# Altium schematic symbol library PI4.SCHLIB: 98 symbols (part 1 of 2)
Pins are listed as number, name and electrical type; pins without a type are passive.

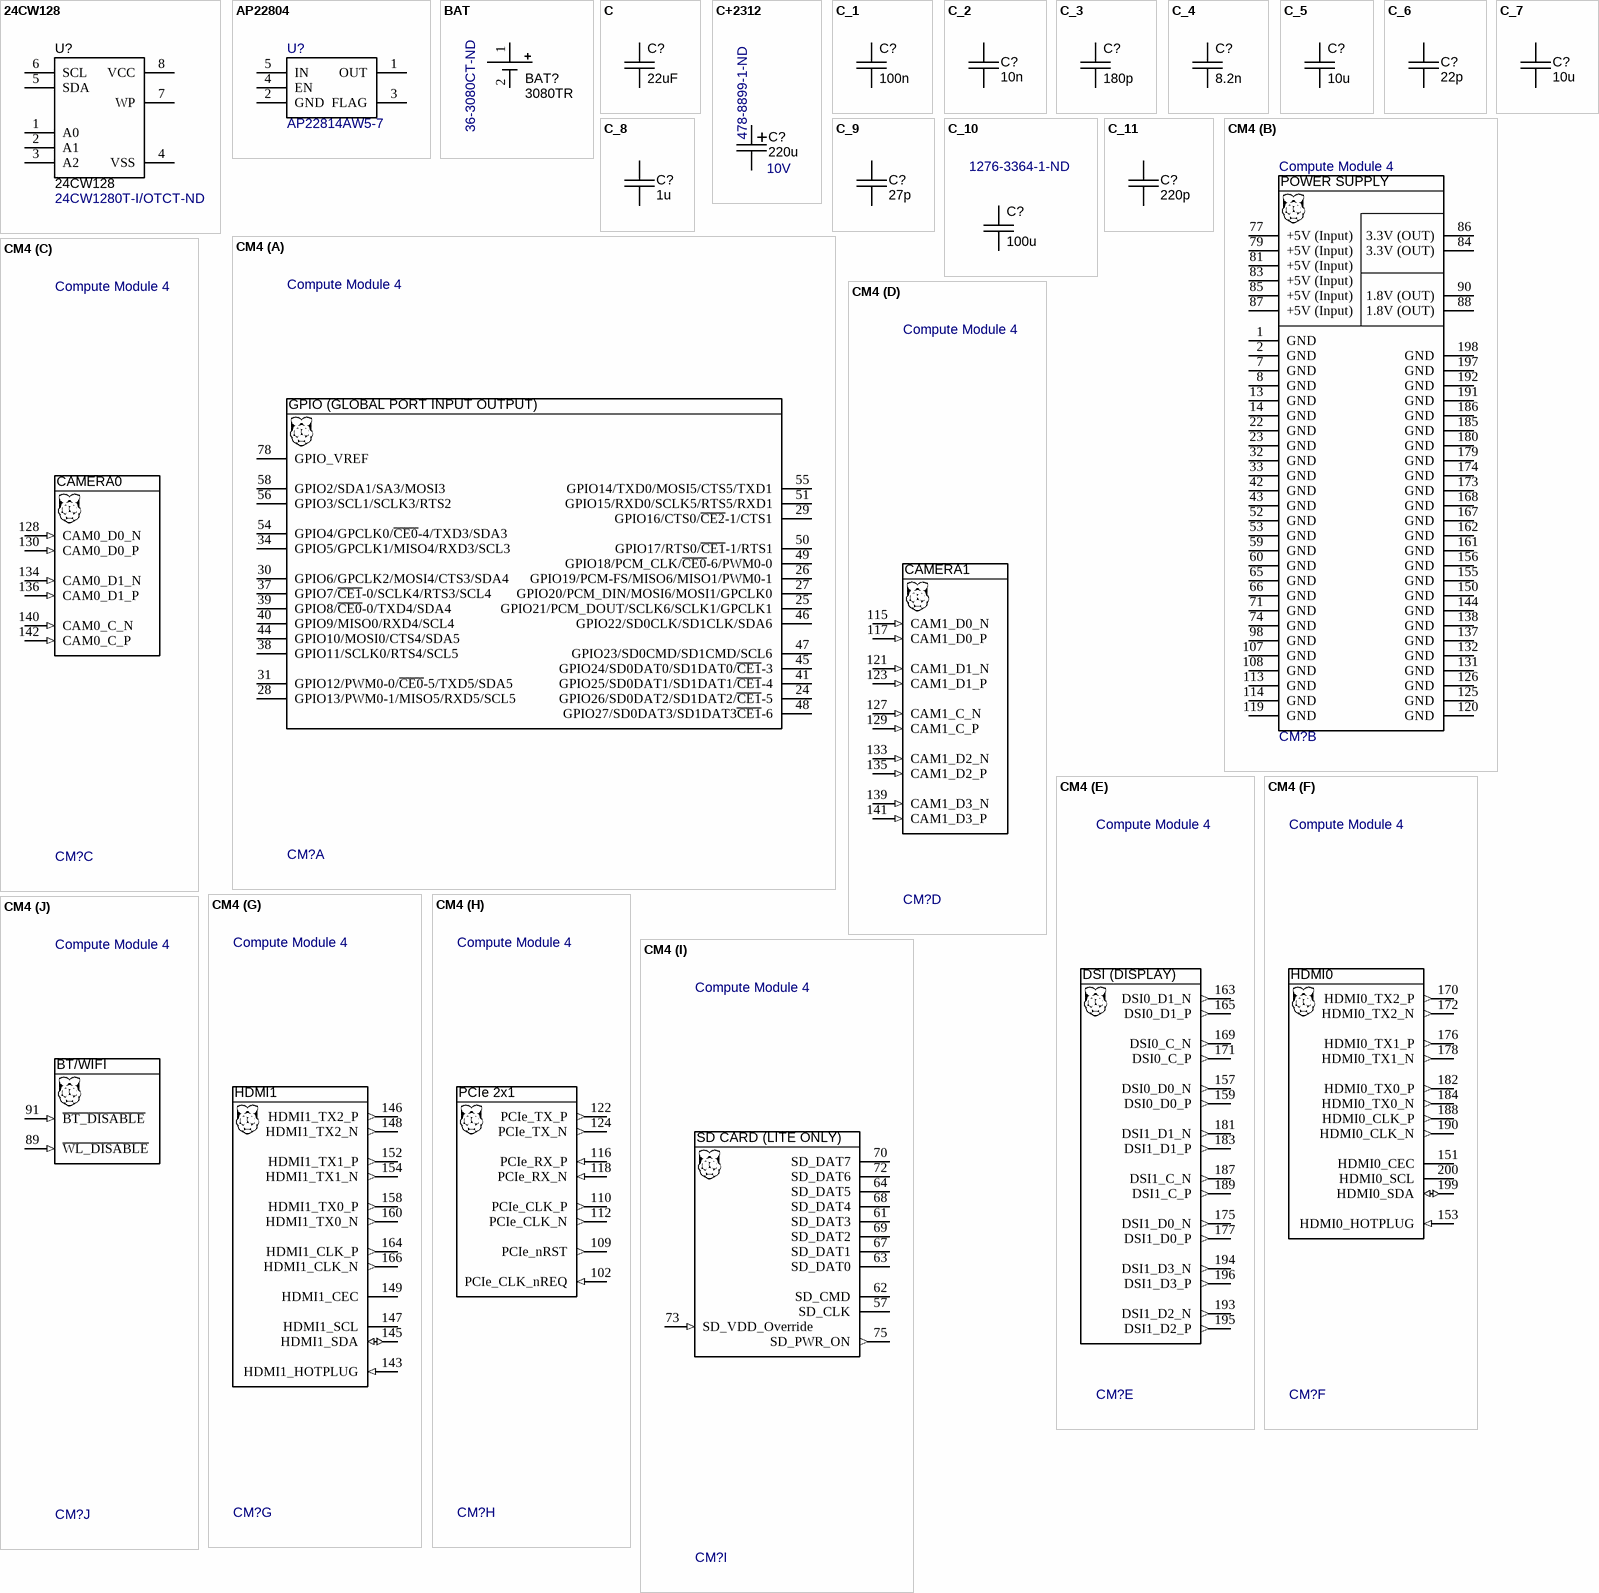
[diagram p0: symbols 24CW128 to CM4]

## 24CW128
designator U?  Supplier Part Number 1: 24CW1280T-I/OTCT-ND
Supplier 1: Digi-Key
footprint SOIC8 (8-Pin Small Outline Integrated Circuit 1.27 mm Pitch, IPC Low Density)
pins: 1 A0, 2 A1, 3 A2, 4 VSS, 5 SDA, 6 SCL, 7 WP, 8 VCC

## AP22804
designator U?, comment AP22814AW5-7
Supplier 1: Digi-Key; Supplier Part Number 1: AP22814AW5-7DICT-ND
footprint SOT23-5 (SOT23, 5-Leads, Body 3.0x2.6mm (max), Pitch 0.95mm, IPC Low Density)
pins: 1 OUT, 2 GND, 3 FLAG, 4 EN, 5 IN

## BAT
designator BAT?, comment 3080TR  Supplier Part Number 1: 36-3080CT-ND
Supplier 1: Digi-Key
footprint BAT_BK-916-TR
pins: 1 +, 2 -

## C
designator C?, comment 22uF
CL32B226KPJVPNE; Rule: UNIONINDEX=0|RULEKIND=PolygonConnect|NETSCOPE=Violation Description|LAYERKIND=SameLayer|NAME=Schematic Polygon Connect Style|CONNECTSTYLE=Direct|RELIEFCONDUCTORWIDTH=10mil|RELIEFENTRIES=4|POLYGONRELIEFANGLE=45 Angle|AIRGAPWIDTH=10mil|UNIT=Imperial; Supplier 1: Digi-Key; Supplier Part Number 1: 490-1719-1-ND
footprint SM/C1210 (Chip Resistor, Body 3.2x1.6mm, IPC Low Density)
pins: 1, 2

## C+2312
designator C?, comment 220u  Supplier Part Number 1: 478-8899-1-ND  Voltage: 10V
CAP TANT 220UF 20% 10V 2312; Supplier 1: Digi-Key
footprint CAPPM6032X280N
pins: 1 +, 2 -

## C_1
designator C?, comment 100n
Chip Capacitor; Voltage: 16V; Dielectric: X7R; Rule: UNIONINDEX=0|RULEKIND=PolygonConnect|NETSCOPE=Violation Description|LAYERKIND=SameLayer|NAME=Schematic Polygon Connect Style|CONNECTSTYLE=Direct|RELIEFCONDUCTORWIDTH=10mil|RELIEFENTRIES=4|POLYGONRELIEFANGLE=45 Angle|AIRGAPWIDTH=10mil|UNIT=Imperial; Supplier 1: Digi-Key; Supplier Part Number 1: 490-13243-1-ND; Supplier 2 Part Number: 1292-1393-1-ND; Supplier 2: Digi-Key
footprint SM/C0603 (Chip Capacitor, Body 1.6x0.8mm, IPC Low Density)
pins: 1, 2

## C_2
designator C?, comment 10n
Chip Capacitor; Voltage: 16V; Dielectric: X7R; Rule: UNIONINDEX=0|RULEKIND=PolygonConnect|NETSCOPE=Violation Description|LAYERKIND=SameLayer|NAME=Schematic Polygon Connect Style|CONNECTSTYLE=Direct|RELIEFCONDUCTORWIDTH=10mil|RELIEFENTRIES=4|POLYGONRELIEFANGLE=45 Angle|AIRGAPWIDTH=10mil|UNIT=Imperial; Supplier 1: Digi-Key; Supplier Part Number 1: 490-13243-1-ND; Supplier 2 Part Number: 1292-1393-1-ND; Supplier 2: Digi-Key
footprint SM/C0603 (Chip Capacitor, Body 1.6x0.8mm, IPC Low Density)
pins: 1, 2

## C_3
designator C?, comment 180p
Chip Capacitor; Voltage: 16V; Dielectric: X7R; Rule: UNIONINDEX=0|RULEKIND=PolygonConnect|NETSCOPE=Violation Description|LAYERKIND=SameLayer|NAME=Schematic Polygon Connect Style|CONNECTSTYLE=Direct|RELIEFCONDUCTORWIDTH=10mil|RELIEFENTRIES=4|POLYGONRELIEFANGLE=45 Angle|AIRGAPWIDTH=10mil|UNIT=Imperial; Supplier 1: Digi-Key; Supplier Part Number 1: 490-13243-1-ND; Supplier 2 Part Number: 1292-1393-1-ND; Supplier 2: Digi-Key
footprint SM/C0603 (Chip Capacitor, Body 1.6x0.8mm, IPC Low Density)
pins: 1, 2

## C_4
designator C?, comment 8.2n
Chip Capacitor; Voltage: 16V; Dielectric: X7R; Rule: UNIONINDEX=0|RULEKIND=PolygonConnect|NETSCOPE=Violation Description|LAYERKIND=SameLayer|NAME=Schematic Polygon Connect Style|CONNECTSTYLE=Direct|RELIEFCONDUCTORWIDTH=10mil|RELIEFENTRIES=4|POLYGONRELIEFANGLE=45 Angle|AIRGAPWIDTH=10mil|UNIT=Imperial; Supplier 1: Digi-Key; Supplier Part Number 1: 490-13243-1-ND; Supplier 2 Part Number: 1292-1393-1-ND; Supplier 2: Digi-Key
footprint SM/C0603 (Chip Capacitor, Body 1.6x0.8mm, IPC Low Density)
pins: 1, 2

## C_5
designator C?, comment 10u
CAP CER 10UF 10V X5R 0805; Supplier 1: Digi-Key; Supplier Part Number 1: 1276-2402-1-ND
footprint SM/C0805 (Chip Resistor, Body 2.0x1.3mm, IPC Low Density)
pins: 1, 2

## C_6
designator C?, comment 22p
Chip Capacitor
footprint SM/C0603 (Chip Capacitor, Body 1.6x0.8mm, IPC Low Density)
pins: 1, 2

## C_7
designator C?, comment 10u
Chip Capacitor
footprint SM/C0805 (Chip Resistor, Body 2.0x1.3mm, IPC Low Density)
pins: 1, 2

## C_8
designator C?, comment 1u
Chip Capacitor; Voltage: 16V; Dielectric: X7R; Supplier 2 Part Number: 1292-1393-1-ND; Supplier 2: Digi-Key
footprint SM/C0603 (Chip Capacitor, Body 1.6x0.8mm, IPC Low Density)
pins: 1, 2

## C_9
designator C?, comment 27p
Chip Capacitor
footprint SM/C0603 (Chip Capacitor, Body 1.6x0.8mm, IPC Low Density)
pins: 1, 2

## C_10
designator C?, comment 100u  Supplier Part Number 1: 1276-3364-1-ND
Chip Capacitor; Supplier 1: Digi-Key
footprint SM/C1210 (Chip Resistor, Body 3.2x1.6mm, IPC Low Density)
pins: 1, 2

## C_11
designator C?, comment 220p
Chip Capacitor; Voltage: 16V; Dielectric: X7R
footprint SM/C0603 (Chip Capacitor, Body 1.6x0.8mm, IPC Low Density)
pins: 1, 2

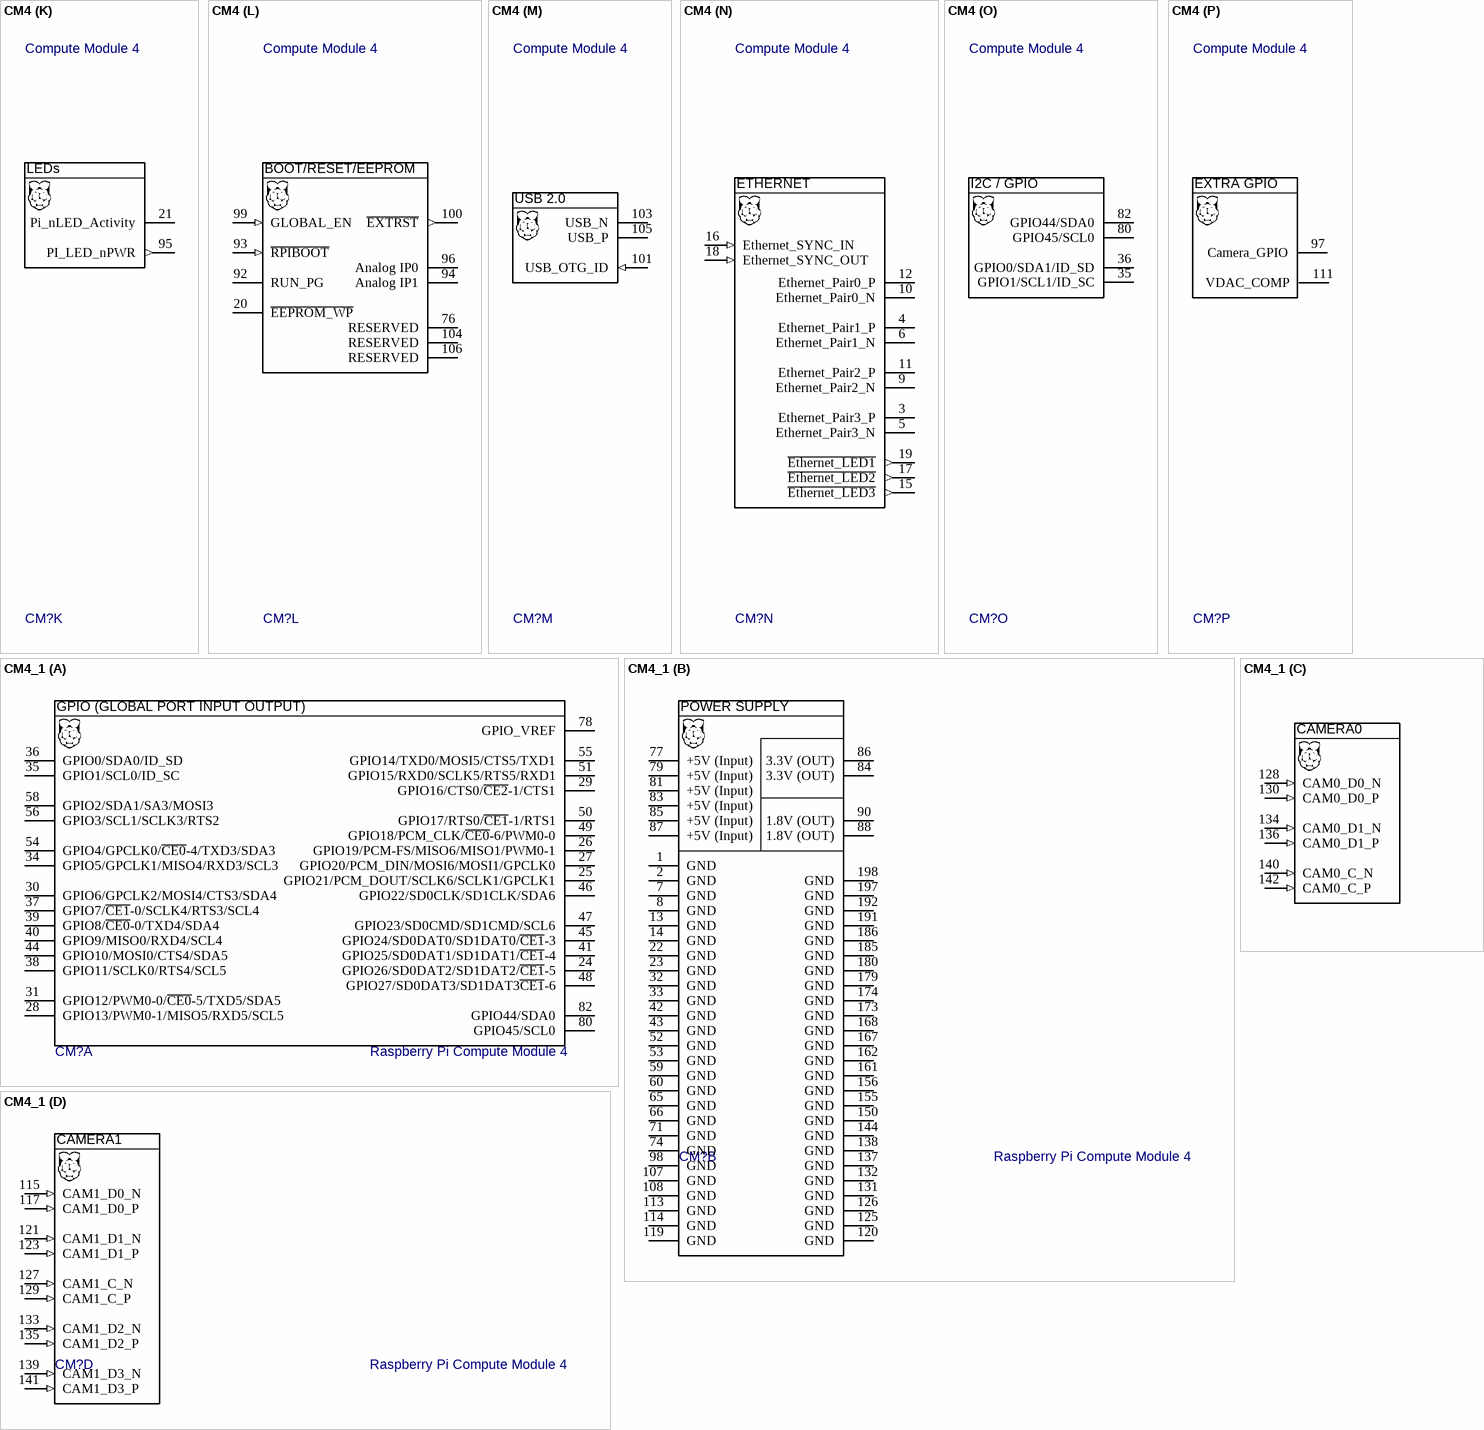
[diagram p1: symbols CM4 to CM4_1]

## CM4
designator CM?, comment Compute Module 4
Raspberry Pi Compute Module 4 by Amornthep Phunsin
footprint CM4-F40C-100DS-0.4v_1.5mm_0mm (DF40C-100DS-0.4v)
footprint CM4-DF40HC(3.0)-100DS-0.4v_3mm_1.5mm (DF40HC(3.0)-100DS-0.4v)
footprint CM4-RASPBERRY-PI4 (DF40C-100DS-0.4v by Amornthep Phunsin)
part A pins: 24 GPIO26/SD0DAT2/SD1DAT2/~{CE1}-5 "Pin37", 25 GPIO21/PCM_DOUT/SCLK6/SCLK1/GPCLK1 "Pin40", 26 GPIO19/PCM-FS/MISO6/MISO1/PWM0-1 "Pin35", 27 GPIO20/PCM_DIN/MOSI6/MOSI1/GPCLK0 "Pin38", 28 GPIO13/PWM0-1/MISO5/RXD5/SCL5 "Pin33 PWM1", 29 GPIO16/CTS0/~{CE2}-1/CTS1 "Pin36", 30 GPIO6/GPCLK2/MOSI4/CTS3/SDA4 "Pin31", 31 GPIO12/PWM0-0/~{CE0}-5/TXD5/SDA5 "Pin32 PWM0", 34 GPIO5/GPCLK1/MISO4/RXD3/SCL3 "Pin29", 37 GPIO7/~{CE1}-0/SCLK4/RTS3/SCL4 "Pin26 SPI0_CE1", 38 GPIO11/SCLK0/RTS4/SCL5 "Pin23 SPI0_CLK", 39 GPIO8/~{CE0}-0/TXD4/SDA4 "Pin24 SPI0_CE0", 40 GPIO9/MISO0/RXD4/SCL4 "Pin21 SPI0_MISO", 41 GPIO25/SD0DAT1/SD1DAT1/~{CE1}-4 "Pin22", 44 GPIO10/MOSI0/CTS4/SDA5 "Pin19 SPI0_MOSI", 45 GPIO24/SD0DAT0/SD1DAT0/~{CE1}-3 "Pin18", 46 GPIO22/SD0CLK/SD1CLK/SDA6 "Pin15", 47 GPIO23/SD0CMD/SD1CMD/SCL6 "Pin16", 48 GPIO27/SD0DAT3/SD1DAT3~{CE1}-6 "Pin13", 49 GPIO18/PCM_CLK/~{CE0}-6/PWM0-0 "Pin12", 50 GPIO17/RTS0/~{CE1}-1/RTS1 "Pin11", 51 GPIO15/RXD0/SCLK5/RTS5/RXD1 "Pin10 RXD0", 54 GPIO4/GPCLK0/~{CE0}-4/TXD3/SDA3 "Pin7 GPCLK0", 55 GPIO14/TXD0/MOSI5/CTS5/TXD1 "Pin8 TXD0", 56 GPIO3/SCL1/SCLK3/RTS2 "Pin5 SCL1 Internal 1.8K pull up", 58 GPIO2/SDA1/SA3/MOSI3 "Pin3 SDA1 Internal 1.8K pull up", 78 GPIO_VREF (power) "Must be connected to CM4_3.3V ( pins 84 and 86 ) for 3.3V GPIO or CM4_1.8V ( pins 88 and 90) for 1.8V GPIO. This pin cannot be floating or connected to ground"
part B pins: 1 GND (power) "Ground (0V)", 2 GND (power) "Ground (0V)", 7 GND (power) "Ground (0V)", 8 GND (power) "Ground (0V)", 13 GND (power) "Ground (0V)", 14 GND (power) "Ground (0V)", 22 GND (power) "Ground (0V)", 23 GND (power) "Ground (0V)", 32 GND (power) "Ground (0V)", 33 GND (power) "Ground (0V)", 42 GND (power) "Ground (0V)", 43 GND (power) "Ground (0V)", 52 GND (power) "Ground (0V)", 53 GND (power) "Ground (0V)", 59 GND (power) "Ground (0V)", 60 GND (power) "Ground (0V)", 65 GND (power) "Ground (0V)", 66 GND (power) "Ground (0V)", 71 GND (power) "Ground (0V)", 74 GND (power) "Ground (0V)", 77 +5V (Input) (power) "4.75V-5.25V Main power input", 79 +5V (Input) (power) "4.75V-5.25V Main power input", 81 +5V (Input) (power) "4.75V-5.25V Main power input", 83 +5V (Input) (power) "4.75V-5.25V Main power input", 84 3.3V (OUT) (power) "3.3V +/-2.5% Power Output max 300mA per pin for a total of 600mA. This will be powered down during power off or GLOBAL_EN being set low", 85 +5V (Input) (power) "4.75V-5.25V Main power input", 86 3.3V (OUT) (power) "3.3V +/-2.5% Power Output max 300mA per pin for a total of 600mA. This will be powered down during power off or GLOBAL_EN being set low", 87 +5V (Input) (power) "4.75V-5.25V Main power input", 88 1.8V (OUT) (power) "1.8V +/-2.5% Power Output max 300mA per pin for a total of 600mA. This will be powered down during power off or GLOBAL_EN being set low", 90 1.8V (OUT) (power) "1.8V +/-2.5% Power Output max 300mA per pin for a total of 600mA. This will be powered down during power off or GLOBAL_EN being set low", 98 GND (power) "Ground (0V)", 107 GND (power) "Ground (0V)", 108 GND (power) "Ground (0V)", 113 GND (power) "Ground (0V)", 114 GND (power) "Ground (0V)", 119 GND (power) "Ground (0V)", 120 GND (power) "Ground (0V)", 125 GND (power) "Ground (0V)", 126 GND (power) "Ground (0V)", 131 GND (power) "Ground (0V)", 132 GND (power) "Ground (0V)", 137 GND (power) "Ground (0V)", 138 GND (power) "Ground (0V)", 144 GND (power) "Ground (0V)", 150 GND (power) "Ground (0V)", 155 GND (power) "Ground (0V)", 156 GND (power) "Ground (0V)", 161 GND (power) "Ground (0V)", 162 GND (power) "Ground (0V)", 167 GND (power) "Ground (0V)", 168 GND (power) "Ground (0V)", 173 GND (power) "Ground (0V)", 174 GND (power) "Ground (0V)", 179 GND (power) "Ground (0V)", 180 GND (power) "Ground (0V)", 185 GND (power) "Ground (0V)", 186 GND (power) "Ground (0V)", 191 GND (power) "Ground (0V)", 192 GND (power) "Ground (0V)", 197 GND (power) "Ground (0V)", 198 GND (power) "Ground (0V)"
part C pins: 128 CAM0_D0_N (in) "Input Camera0 D0 Negative", 130 CAM0_D0_P (in) "Input Camera0 D0 Positive", 134 CAM0_D1_N (in) "Input Camera0 D1 Negative", 136 CAM0_D1_P (in) "Input Camera0 D1 Positive", 140 CAM0_C_N (in) "Input Camera0 Clock Negative", 142 CAM0_C_P (in) "Input Camera0 Clock Positive"
part D pins: 115 CAM1_D0_N (in) "Input Camera1 D0 Negative", 117 CAM1_D0_P (in) "Input Camera1 D0 Positive", 121 CAM1_D1_N (in) "Input Camera1 D1 Negative", 123 CAM1_D1_P (in) "Input Camera1 D1 Positive", 127 CAM1_C_N (in) "Input Camera1 Clock Negative", 129 CAM1_C_P (in) "Input Camera1 Clock Positive", 133 CAM1_D2_N (in) "Input Camera1 D2 Negative", 135 CAM1_D2_P (in) "Input Camera1 D2 Positive", 139 CAM1_D3_N (in) "Input Camera1 D3 Negative", 141 CAM1_D3_P (in) "Input Camera1 D3 Positive"
part E pins: 157 DSI0_D0_N (out) "Output Display0 D0 Negative", 159 DSI0_D0_P (out) "Output Display0 D0 Positive", 163 DSI0_D1_N (out) "Output Display0 D1 Negative", 165 DSI0_D1_P (out) "Output Display0 D1 Positive", 169 DSI0_C_N (out) "Output Display0 Clock Negative", 171 DSI0_C_P (out) "Output Display0 Clock Positive", 175 DSI1_D0_N (out) "Output Display1 D0 Negative", 177 DSI1_D0_P (out) "Output Display1 D0 Positive", 181 DSI1_D1_N (out) "Output Display1 D1 Negative", 183 DSI1_D1_P (out) "Output Display1 D1 Positive", 187 DSI1_C_N (out) "Output Display1 Clock Negative", 189 DSI1_C_P (out) "Output Display1 Clock Positive", 193 DSI1_D2_N (out) "Output Display1 D2 Negative", 194 DSI1_D3_N (out) "Output Display1 D3 Negative", 195 DSI1_D2_P (out) "Output Display1 D2 Positive", 196 DSI1_D3_P (out) "Output Display1 D3 Positive"
part F pins: 151 HDMI0_CEC (oc) "Input HDMI0 CEC Internally pulled up with a 27K. 5V tolerant (It can be connected directly to a HDMI connector a small amount of ESD protection is provided on the CM4 by an on board HDMI05-CL02F3)", 153 HDMI0_HOTPLUG (in) "Input HDMI0 Hotplug Internally pulled down 100K. 5V tolerant. (It can be connected directly to a HDMI connector a small amount of ESD protection is provided on the CM4 by an on board HDMI05-CL02F3)", 170 HDMI0_TX2_P (out) "Output HDMI0 TX2 Positive", 172 HDMI0_TX2_N (out) "Output HDMI0 TX2 Negative", 176 HDMI0_TX1_P (out) "Output HDMI0 TX1 Positive", 178 HDMI0_TX1_N (out) "Output HDMI0 TX1 Negative", 182 HDMI0_TX0_P (out) "Output HDMI0 TX0 Positive", 184 HDMI0_TX0_N (out) "Output HDMI0 TX0 Negative", 188 HDMI0_CLK_P (out) "Output HDMI0 Clock Positive", 190 HDMI0_CLK_N (out) "Output HDMI0 Clock Negative", 199 HDMI0_SDA (io) "Bidir HDMI0 SDA Internally pulled up with a 1.8K. 5V tolerant. (It can be connected directly to a HDMI connector a small amount of ESD protection is provided on the CM4 by an on board HDMI05-CL02F3)", 200 HDMI0_SCL (oc) "Bidir HDMI0 SCL Internally pulled up with a 1.8K. 5V tolerant. (It can be connected directly to a HDMI connector a small amount of ESD protection is provided on the CM4 by an on board HDMI05-CL02F3)"
part G pins: 143 HDMI1_HOTPLUG (in) "Input HDMI1 Hotplug Internally pulled down with a 100K. 5V tolerant. (It can be connected directly to a HDMI connector a small amount of ESD protection is provided on the CM4 by an on board HDMI05-CL02F3)", 145 HDMI1_SDA (io) "Bidir HDMI1 SDA Internally pulled up with a 1.8K. 5V tolerant. (It can be connected directly to a HDMI connector a small amount of ESD protection is provided on the CM4 by an on board HDMI05-CL02F3)", 146 HDMI1_TX2_P (out) "Output HDMI1 TX2 Positive", 147 HDMI1_SCL (oc) "Input HDMI1 SCL Internally pulled up with a 1.8K. 5V tolerant. (It can be connected directly to a HDMI connector a small amount of ESD protection is provided on the CM4 by an on board HDMI05-CL02F3)", 148 HDMI1_TX2_N (out) "Output HDMI1 TX2 Negative", 149 HDMI1_CEC (oc) "Input HDMI1 CEC Internally pulled up with a 27K. 5V tolerant. (It can be connected directly to a HDMI connector a small amount of ESD protection is provided on the CM4 by an on board HDMI05-CL02F3)", 152 HDMI1_TX1_P (out) "Output HDMI1 TX1 Positive", 154 HDMI1_TX1_N (out) "Output HDMI1 TX1 Negative", 158 HDMI1_TX0_P (out) "Output HDMI1 TX0 Positive", 160 HDMI1_TX0_N (out) "Output HDMI1 TX0 Negative", 164 HDMI1_CLK_P (out) "Output HDMI1 Clock Positive", 166 HDMI1_CLK_N (out) "Output HDMI1 Clock Negative"
part H pins: 102 PCIe_CLK_nREQ (in) "Input ( 3.3V signal) PCIe Clock request pin (low to request PCI clock). Internal pulled up", 109 PCIe_nRST (out) "Output (+3.3V signal) PCIe Reset Low active", 110 PCIe_CLK_P (out) "PCIe Clock Out Positive (100MHz) NB AC coupling Capacitor Included on CM4", 112 PCIe_CLK_N (out) "PCIe Clock Out Negative (100MHz) NB AC coupling Capacitor Included on CM4", 116 PCIe_RX_P (in) "Input PCIe GEN 2 RX Positive NB External AC coupling Capacitor required", 118 PCIe_RX_N (in) "Input PCIe GEN 2 RX Negative NB External AC coupling Capacitor required", 122 PCIe_TX_P (out) "Output PCIe GEN 2 TX Positive NB AC coupling Capacitor Included on CM4", 124 PCIe_TX_N (out) "Output PCIe GEN 2 TX Positive NB AC coupling Capacitor Included on CM4"
part I pins: 57 SD_CLK "SDCARD Clock signal (only available on CM4Lite)", 61 SD_DAT3 "SDCARD/eMMC Data3 signal (only available on CM4Lite)", 62 SD_CMD "SDCARD/eMMC Command signal (only available on CM4Lite)", 63 SD_DAT0 "SDCARD/eMMC Data0 signal (only available on CM4Lite)", 64 SD_DAT5 "SDCARD/eMMC Data5 signal (only available on CM4Lite)", 67 SD_DAT1 "SDCARD/eMMC Data1 signal (only available on CM4Lite)", 68 SD_DAT4 "SDCARD/eMMC Data4 signal (only available on CM4Lite)", 69 SD_DAT2 "SDCARD/eMMC Data2 signal (only available on CM4Lite)", 70 SD_DAT7 "SDCARD/eMMC Data7 signal (only available on CM4Lite)", 72 SD_DAT6 "SDCARD/eMMC Data6 signal (only available on CM4Lite)", 73 SD_VDD_Override (in) "Force SDCARD/eMMC interface to 1.8V signalling if set to 3.3V, otherwise leave unconnected. Typically only used if external eMMC is connected", 75 SD_PWR_ON (out) "Output to Power switch for SDCARD. CM4 sets this pin High (3.3V) to signal that Power to the SDCARD should be turned on. If booting from the SDCARD is required then a pullup should be fitted (only available on CM4Lite)"
part J pins: 89 ~{WL_DISABLE} (in) "Can be left floating if driven low the wireless interface will be disabled. Internal pulled up via 1.8K to CM4_3.3V", 91 ~{BT_DISABLE} (in) "Can be left floating if driven low the Bluetooth interface will be disabled. Internal pulled up via 1.8K to CM4_3.3V"
part K pins: 21 Pi_nLED_Activity (oc) "Low Active Pi Activity LED. 20mA Max 5V tolerant ( VOL<0.4V). ( this is the signal that drives the Green LED on the Raspberry Pi 4, Model B )", 95 PI_LED_nPWR (out) "Low active Output to drive Power On LED. This signal needs to be buffered."
part L pins: 20 ~{EEPROM_WP} "Leaving floating NB internally pulled up to CM4_3.3V via 100K ( VIL <0.8V) but can be grounded to prevent writing to the on board EEPROM which stores the bootcode", 76 RESERVED "Do not Connect anything to this pin.", 92 RUN_PG "Bidirectional pin. Can be driven low ( via a 220R resistor) to Reset the CM4 CPU. As an Output a high signals Power Good and CPU running. Internally pulled up to +3.3V via 10K", 93 ~{RPIBOOT} (in) "A low on this pin force booting from an RPI server ( e.g PC or a Raspberry Pi)  if not used leave floating. Internally pulled via 10K to +3.3V", 94 Analog IP1 "Analogue input of the MAX7704. Typically connected to CC pin of Type C power connector", 96 Analog IP0 "Analogue input of the MAX7704. Typically connected to CC pin of Type C power connector", 99 GLOBAL_EN (in) "Input. Drive low to power off CM4. Internally pulled up with a 100K to +5V", 100 ~{EXTRST} (out) "Output Driven low during reset Driven high (CM4_3.3V) once CM4 CPU has started to boot", 104 RESERVED "Do not Connect anything to this pin.", 106 RESERVED "Do not Connect anything to this pin."
part M pins: 101 USB_OTG_ID (in) "Input ( 3.3V signal ) USB OTG Pin. Internal pulled up. When grounded the CM4 becomes a USB host but the correct OS driver also needs to be used", 103 USB_N "USB D-", 105 USB_P "USB D+"
part N pins: 3 Ethernet_Pair3_P "Ethernet Pair 3 Positive ( connect to Transformer or MagJack)", 4 Ethernet_Pair1_P "Ethernet Pair 1 Positive ( connect to Transformer or MagJack)", 5 Ethernet_Pair3_N "Ethernet Pair 3 Negative ( connect to Transformer or MagJack)", 6 Ethernet_Pair1_N "Ethernet Pair 1 Negative ( connect to Transformer or MagJack)", 9 Ethernet_Pair2_N "Ethernet Pair 2 Negative ( connect to Transformer or MagJack)", 10 Ethernet_Pair0_N "Ethernet Pair 0 Negative ( connect to Transformer or MagJack)", 11 Ethernet_Pair2_P "Ethernet Pair 2 Positive ( connect to Transformer or MagJack)", 12 Ethernet_Pair0_P "Ethernet Pair 0 Positive ( connect to Transformer or MagJack)", 15 ~{Ethernet_LED3} (out) "Low Active Ethernet Activity indicator ( 3.3V signal) Typically a Green LED is connected to this pin: IOL = 8mA @ VOL< 0.4V", 16 Ethernet_SYNC_IN (in) "IEEE1588 SYNC Input pin ( 1.8V signal : IOL = 8mA @ VOL< 0.4V )", 17 ~{Ethernet_LED2} (out) "Low Active Ethernet speed indicator ( 3.3V signal) Typically a Yellow LED is connected to this pin. A low State indicates the 1Gbit or 100Mbit Link : IOL = 8mA @ VOL< 0.4V", 18 Ethernet_SYNC_OUT (in) "IEEE1588 SYNC Output pin ( 1.8V signal : IOL = 8mA @ VOL< 0.4V )", 19 ~{Ethernet_LED1} (out) "Low Active Ethernet speed indicator ( 3.3V signal) Typically a Yellow LED is connected to this pin. A low State indicates the 1Gbit or 10Mbit Link : IOL = 8mA @ VOL< 0.4V"
part O pins: 35 GPIO1/SCL1/ID_SC "Pin28 GPIO1 SCL0", 36 GPIO0/SDA1/ID_SD "Pin27 GPIO0 SDA0", 80 GPIO45/SCL0 "IIC Clock pin ( Raspberry Pi GPIO45) Typically used for Camera and Displays Internal 1.8K pull up to CM4_3.3V", 82 GPIO44/SDA0 "IIC Data pin ( Raspberry Pi GPIO44 ) Typically used for Camera and Displays Internal 1.8K pull up to CM4_3.3V"
part P pins: 97 Camera_GPIO "Typically used to Shutdown the camera to reduce power. Reassigning this pin to another function isn’t recommended. CM4_3.3V signalling", 111 VDAC_COMP "Video DAC output (TV OUT)"
part A text: GPIO (GLOBAL PORT INPUT OUTPUT)
part B text: POWER SUPPLY
part C text: CAMERA0
part D text: CAMERA1
part E text: DSI (DISPLAY)
part F text: HDMI0
part G text: HDMI1
part H text: PCIe 2x1
part I text: SD CARD (LITE ONLY)
part J text: BT/WIFI
part K text: LEDs
part L text: BOOT/RESET/EEPROM
part M text: USB 2.0
part N text: ETHERNET
part O text: I2C / GPIO
part P text: EXTRA GPIO

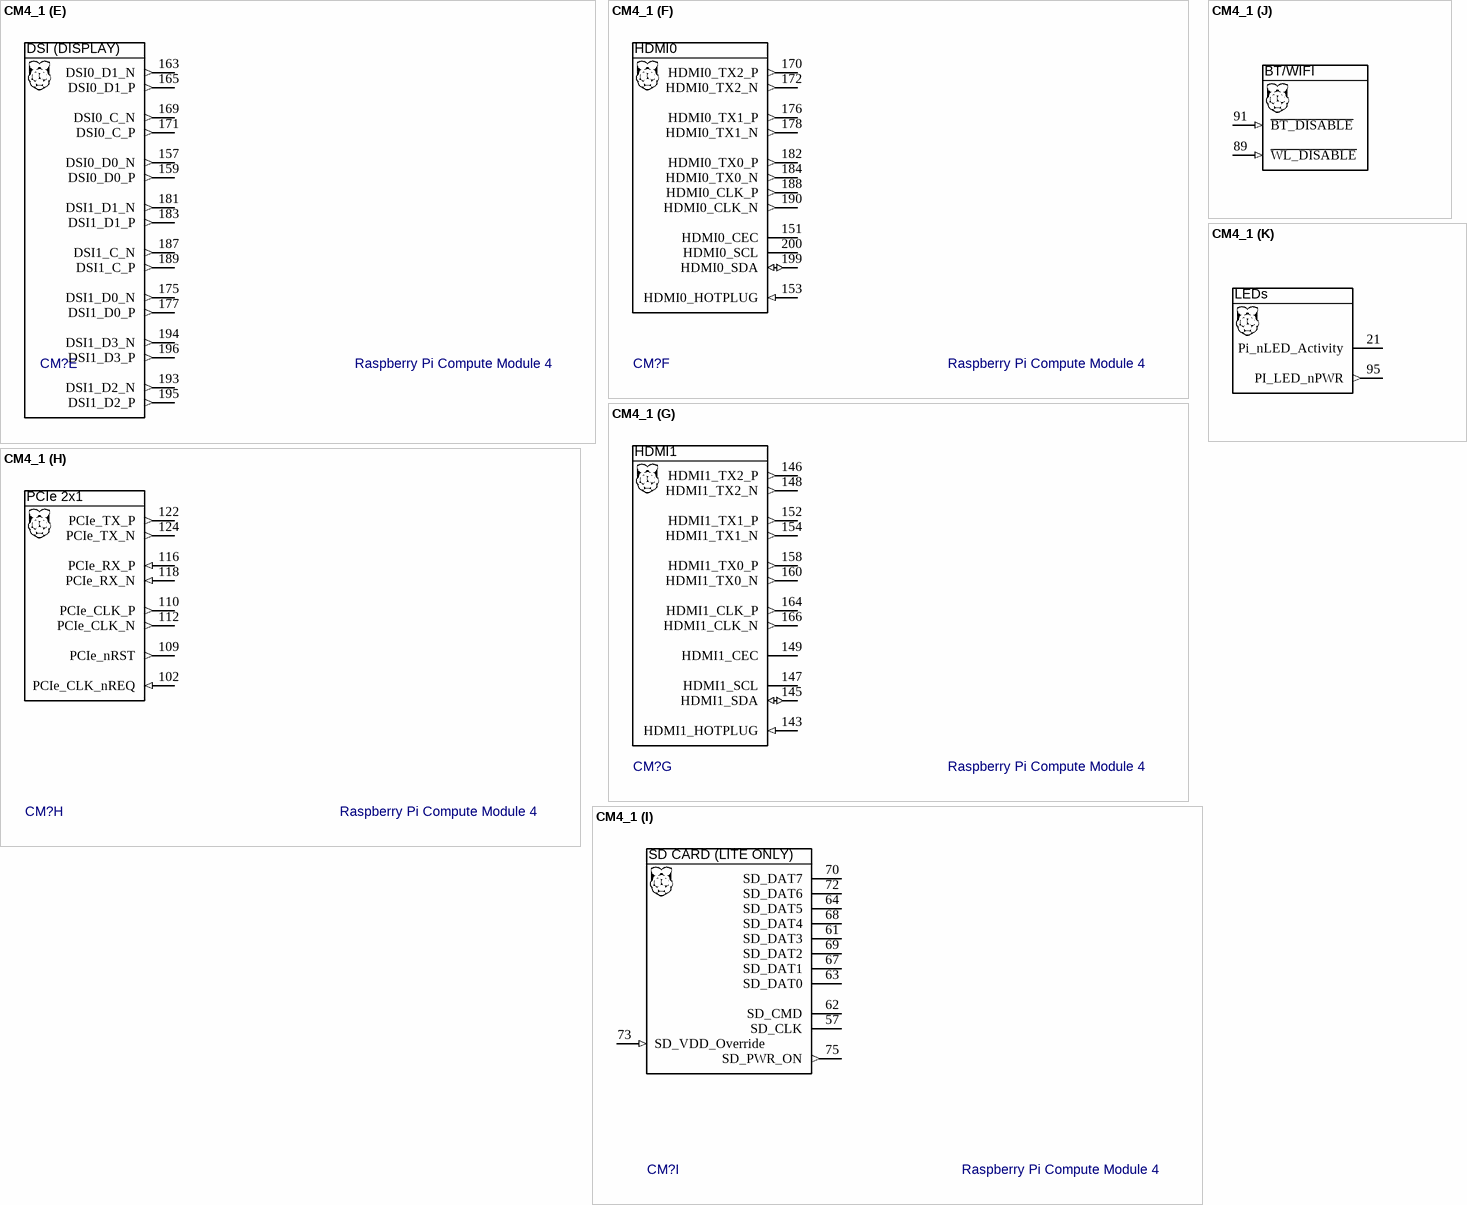
[diagram p2: symbol CM4_1]

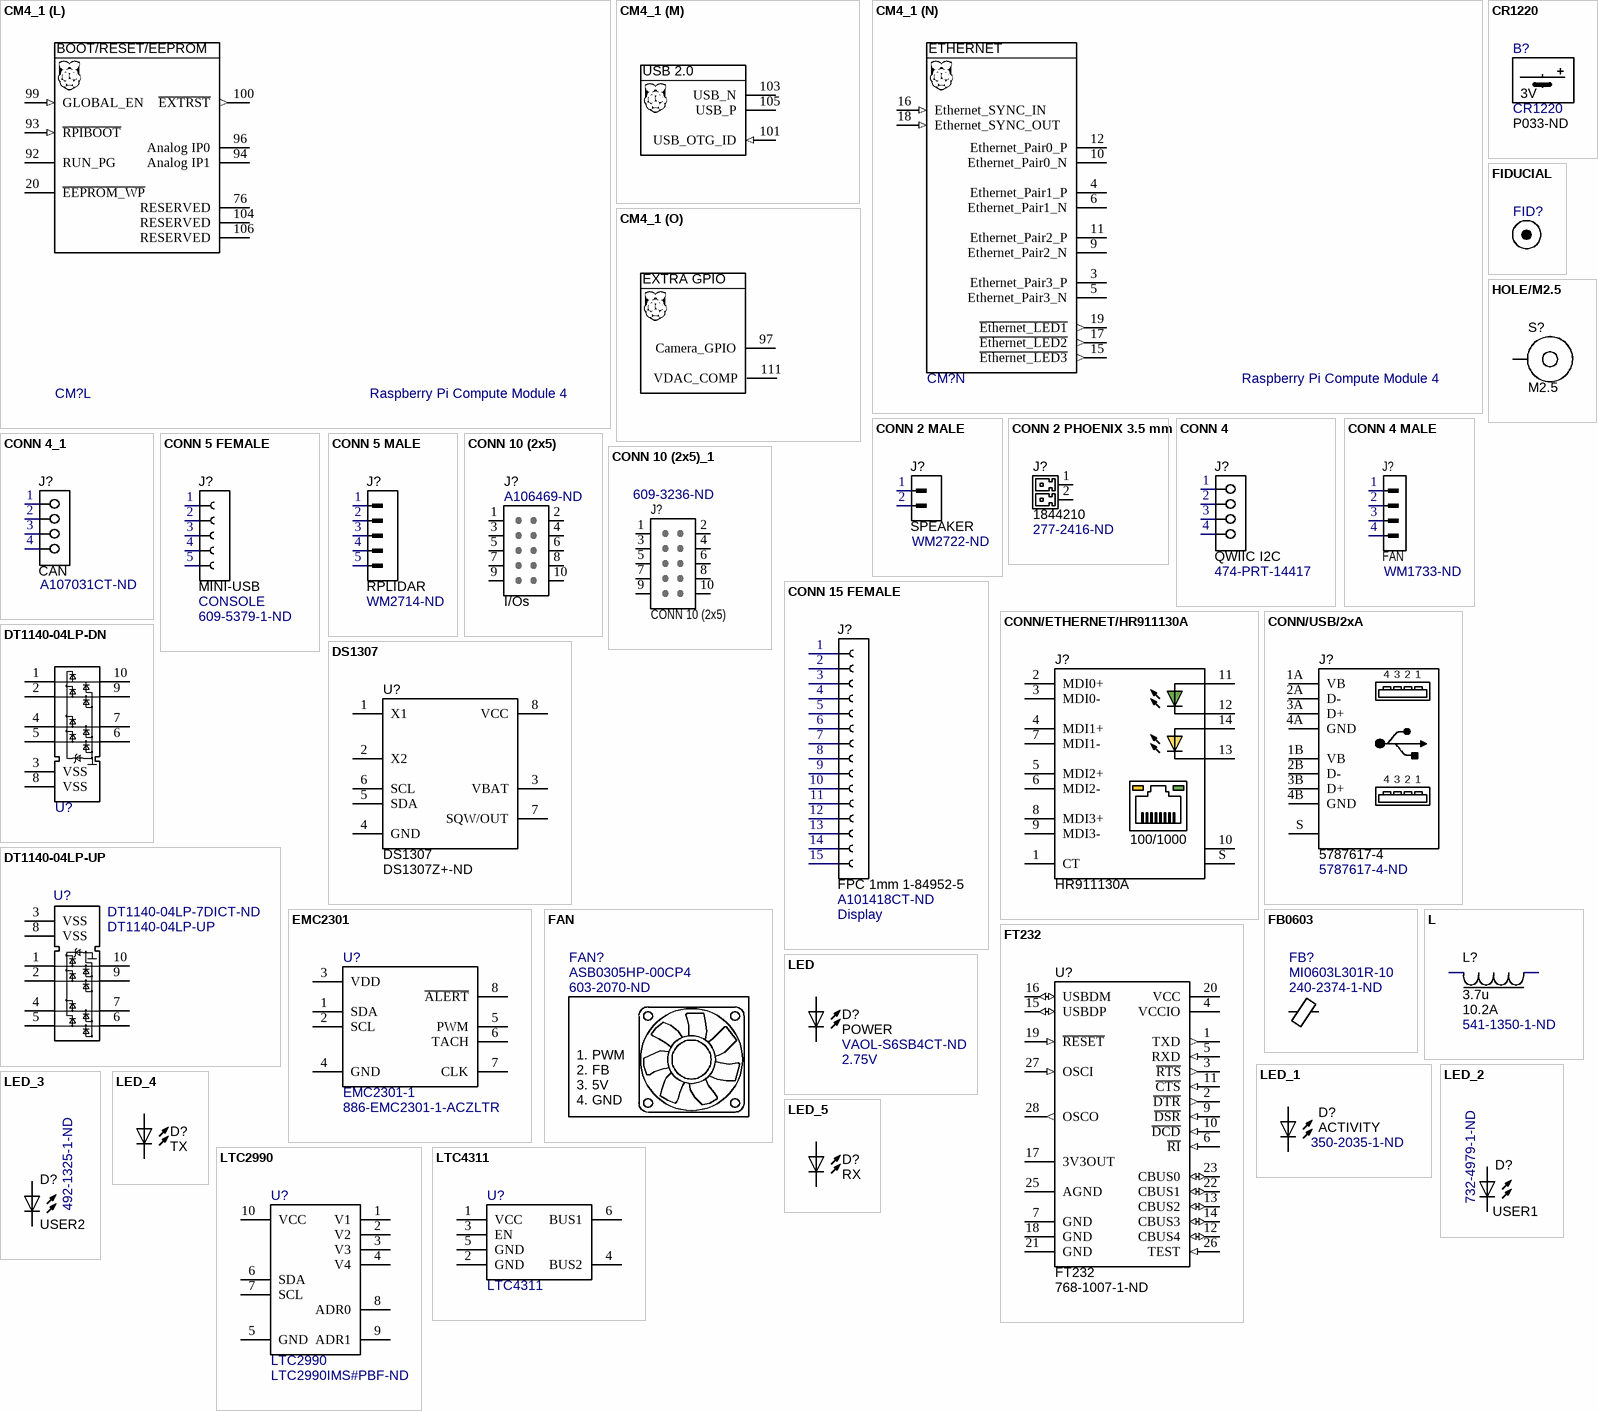
[diagram p3: symbols CM4_1 to LTC4311]

## CM4_1
designator CM?, comment Raspberry Pi Compute Module 4
Raspberry Pi Compute Module 4 by Amornthep Phunsin
footprint CM4-F40C-100DS-0.4v_1.5mm_0mm (DF40C-100DS-0.4v)
footprint CM4-DF40HC(3.0)-100DS-0.4v_3mm_1.5mm (DF40HC(3.0)-100DS-0.4v)
footprint CM4-RASPBERRY-PI4 (DF40C-100DS-0.4v by Amornthep Phunsin)
part A pins: 24 GPIO26/SD0DAT2/SD1DAT2/~{CE1}-5 "Pin37", 25 GPIO21/PCM_DOUT/SCLK6/SCLK1/GPCLK1 "Pin40", 26 GPIO19/PCM-FS/MISO6/MISO1/PWM0-1 "Pin35", 27 GPIO20/PCM_DIN/MOSI6/MOSI1/GPCLK0 "Pin38", 28 GPIO13/PWM0-1/MISO5/RXD5/SCL5 "Pin33 PWM1", 29 GPIO16/CTS0/~{CE2}-1/CTS1 "Pin36", 30 GPIO6/GPCLK2/MOSI4/CTS3/SDA4 "Pin31", 31 GPIO12/PWM0-0/~{CE0}-5/TXD5/SDA5 "Pin32 PWM0", 34 GPIO5/GPCLK1/MISO4/RXD3/SCL3 "Pin29", 35 GPIO1/SCL0/ID_SC "Pin28 GPIO1 SCL0", 36 GPIO0/SDA0/ID_SD "Pin27 GPIO0 SDA0", 37 GPIO7/~{CE1}-0/SCLK4/RTS3/SCL4 "Pin26 SPI0_CE1", 38 GPIO11/SCLK0/RTS4/SCL5 "Pin23 SPI0_CLK", 39 GPIO8/~{CE0}-0/TXD4/SDA4 "Pin24 SPI0_CE0", 40 GPIO9/MISO0/RXD4/SCL4 "Pin21 SPI0_MISO", 41 GPIO25/SD0DAT1/SD1DAT1/~{CE1}-4 "Pin22", 44 GPIO10/MOSI0/CTS4/SDA5 "Pin19 SPI0_MOSI", 45 GPIO24/SD0DAT0/SD1DAT0/~{CE1}-3 "Pin18", 46 GPIO22/SD0CLK/SD1CLK/SDA6 "Pin15", 47 GPIO23/SD0CMD/SD1CMD/SCL6 "Pin16", 48 GPIO27/SD0DAT3/SD1DAT3~{CE1}-6 "Pin13", 49 GPIO18/PCM_CLK/~{CE0}-6/PWM0-0 "Pin12", 50 GPIO17/RTS0/~{CE1}-1/RTS1 "Pin11", 51 GPIO15/RXD0/SCLK5/RTS5/RXD1 "Pin10 RXD0", 54 GPIO4/GPCLK0/~{CE0}-4/TXD3/SDA3 "Pin7 GPCLK0", 55 GPIO14/TXD0/MOSI5/CTS5/TXD1 "Pin8 TXD0", 56 GPIO3/SCL1/SCLK3/RTS2 "Pin5 SCL1 Internal 1.8K pull up", 58 GPIO2/SDA1/SA3/MOSI3 "Pin3 SDA1 Internal 1.8K pull up", 78 GPIO_VREF (power) "Must be connected to CM4_3.3V ( pins 84 and 86 ) for 3.3V GPIO or CM4_1.8V ( pins 88 and 90) for 1.8V GPIO. This pin cannot be floating or connected to ground", 80 GPIO45/SCL0 "IIC Clock pin ( Raspberry Pi GPIO45) Typically used for Camera and Displays Internal 1.8K pull up to CM4_3.3V", 82 GPIO44/SDA0 "IIC Data pin ( Raspberry Pi GPIO44 ) Typically used for Camera and Displays Internal 1.8K pull up to CM4_3.3V"
part B pins: 1 GND (power) "Ground (0V)", 2 GND (power) "Ground (0V)", 7 GND (power) "Ground (0V)", 8 GND (power) "Ground (0V)", 13 GND (power) "Ground (0V)", 14 GND (power) "Ground (0V)", 22 GND (power) "Ground (0V)", 23 GND (power) "Ground (0V)", 32 GND (power) "Ground (0V)", 33 GND (power) "Ground (0V)", 42 GND (power) "Ground (0V)", 43 GND (power) "Ground (0V)", 52 GND (power) "Ground (0V)", 53 GND (power) "Ground (0V)", 59 GND (power) "Ground (0V)", 60 GND (power) "Ground (0V)", 65 GND (power) "Ground (0V)", 66 GND (power) "Ground (0V)", 71 GND (power) "Ground (0V)", 74 GND (power) "Ground (0V)", 77 +5V (Input) (power) "4.75V-5.25V Main power input", 79 +5V (Input) (power) "4.75V-5.25V Main power input", 81 +5V (Input) (power) "4.75V-5.25V Main power input", 83 +5V (Input) (power) "4.75V-5.25V Main power input", 84 3.3V (OUT) (power) "3.3V +/-2.5% Power Output max 300mA per pin for a total of 600mA. This will be powered down during power off or GLOBAL_EN being set low", 85 +5V (Input) (power) "4.75V-5.25V Main power input", 86 3.3V (OUT) (power) "3.3V +/-2.5% Power Output max 300mA per pin for a total of 600mA. This will be powered down during power off or GLOBAL_EN being set low", 87 +5V (Input) (power) "4.75V-5.25V Main power input", 88 1.8V (OUT) (power) "1.8V +/-2.5% Power Output max 300mA per pin for a total of 600mA. This will be powered down during power off or GLOBAL_EN being set low", 90 1.8V (OUT) (power) "1.8V +/-2.5% Power Output max 300mA per pin for a total of 600mA. This will be powered down during power off or GLOBAL_EN being set low", 98 GND (power) "Ground (0V)", 107 GND (power) "Ground (0V)", 108 GND (power) "Ground (0V)", 113 GND (power) "Ground (0V)", 114 GND (power) "Ground (0V)", 119 GND (power) "Ground (0V)", 120 GND (power) "Ground (0V)", 125 GND (power) "Ground (0V)", 126 GND (power) "Ground (0V)", 131 GND (power) "Ground (0V)", 132 GND (power) "Ground (0V)", 137 GND (power) "Ground (0V)", 138 GND (power) "Ground (0V)", 144 GND (power) "Ground (0V)", 150 GND (power) "Ground (0V)", 155 GND (power) "Ground (0V)", 156 GND (power) "Ground (0V)", 161 GND (power) "Ground (0V)", 162 GND (power) "Ground (0V)", 167 GND (power) "Ground (0V)", 168 GND (power) "Ground (0V)", 173 GND (power) "Ground (0V)", 174 GND (power) "Ground (0V)", 179 GND (power) "Ground (0V)", 180 GND (power) "Ground (0V)", 185 GND (power) "Ground (0V)", 186 GND (power) "Ground (0V)", 191 GND (power) "Ground (0V)", 192 GND (power) "Ground (0V)", 197 GND (power) "Ground (0V)", 198 GND (power) "Ground (0V)"
part C pins: 128 CAM0_D0_N (in) "Input Camera0 D0 Negative", 130 CAM0_D0_P (in) "Input Camera0 D0 Positive", 134 CAM0_D1_N (in) "Input Camera0 D1 Negative", 136 CAM0_D1_P (in) "Input Camera0 D1 Positive", 140 CAM0_C_N (in) "Input Camera0 Clock Negative", 142 CAM0_C_P (in) "Input Camera0 Clock Positive"
part D pins: 115 CAM1_D0_N (in) "Input Camera1 D0 Negative", 117 CAM1_D0_P (in) "Input Camera1 D0 Positive", 121 CAM1_D1_N (in) "Input Camera1 D1 Negative", 123 CAM1_D1_P (in) "Input Camera1 D1 Positive", 127 CAM1_C_N (in) "Input Camera1 Clock Negative", 129 CAM1_C_P (in) "Input Camera1 Clock Positive", 133 CAM1_D2_N (in) "Input Camera1 D2 Negative", 135 CAM1_D2_P (in) "Input Camera1 D2 Positive", 139 CAM1_D3_N (in) "Input Camera1 D3 Negative", 141 CAM1_D3_P (in) "Input Camera1 D3 Positive"
part E pins: 157 DSI0_D0_N (out) "Output Display0 D0 Negative", 159 DSI0_D0_P (out) "Output Display0 D0 Positive", 163 DSI0_D1_N (out) "Output Display0 D1 Negative", 165 DSI0_D1_P (out) "Output Display0 D1 Positive", 169 DSI0_C_N (out) "Output Display0 Clock Negative", 171 DSI0_C_P (out) "Output Display0 Clock Positive", 175 DSI1_D0_N (out) "Output Display1 D0 Negative", 177 DSI1_D0_P (out) "Output Display1 D0 Positive", 181 DSI1_D1_N (out) "Output Display1 D1 Negative", 183 DSI1_D1_P (out) "Output Display1 D1 Positive", 187 DSI1_C_N (out) "Output Display1 Clock Negative", 189 DSI1_C_P (out) "Output Display1 Clock Positive", 193 DSI1_D2_N (out) "Output Display1 D2 Negative", 194 DSI1_D3_N (out) "Output Display1 D3 Negative", 195 DSI1_D2_P (out) "Output Display1 D2 Positive", 196 DSI1_D3_P (out) "Output Display1 D3 Positive"
part F pins: 151 HDMI0_CEC (oc) "Input HDMI0 CEC Internally pulled up with a 27K. 5V tolerant (It can be connected directly to a HDMI connector a small amount of ESD protection is provided on the CM4 by an on board HDMI05-CL02F3)", 153 HDMI0_HOTPLUG (in) "Input HDMI0 Hotplug Internally pulled down 100K. 5V tolerant. (It can be connected directly to a HDMI connector a small amount of ESD protection is provided on the CM4 by an on board HDMI05-CL02F3)", 170 HDMI0_TX2_P (out) "Output HDMI0 TX2 Positive", 172 HDMI0_TX2_N (out) "Output HDMI0 TX2 Negative", 176 HDMI0_TX1_P (out) "Output HDMI0 TX1 Positive", 178 HDMI0_TX1_N (out) "Output HDMI0 TX1 Negative", 182 HDMI0_TX0_P (out) "Output HDMI0 TX0 Positive", 184 HDMI0_TX0_N (out) "Output HDMI0 TX0 Negative", 188 HDMI0_CLK_P (out) "Output HDMI0 Clock Positive", 190 HDMI0_CLK_N (out) "Output HDMI0 Clock Negative", 199 HDMI0_SDA (io) "Bidir HDMI0 SDA Internally pulled up with a 1.8K. 5V tolerant. (It can be connected directly to a HDMI connector a small amount of ESD protection is provided on the CM4 by an on board HDMI05-CL02F3)", 200 HDMI0_SCL (oc) "Bidir HDMI0 SCL Internally pulled up with a 1.8K. 5V tolerant. (It can be connected directly to a HDMI connector a small amount of ESD protection is provided on the CM4 by an on board HDMI05-CL02F3)"
part G pins: 143 HDMI1_HOTPLUG (in) "Input HDMI1 Hotplug Internally pulled down with a 100K. 5V tolerant. (It can be connected directly to a HDMI connector a small amount of ESD protection is provided on the CM4 by an on board HDMI05-CL02F3)", 145 HDMI1_SDA (io) "Bidir HDMI1 SDA Internally pulled up with a 1.8K. 5V tolerant. (It can be connected directly to a HDMI connector a small amount of ESD protection is provided on the CM4 by an on board HDMI05-CL02F3)", 146 HDMI1_TX2_P (out) "Output HDMI1 TX2 Positive", 147 HDMI1_SCL (oc) "Input HDMI1 SCL Internally pulled up with a 1.8K. 5V tolerant. (It can be connected directly to a HDMI connector a small amount of ESD protection is provided on the CM4 by an on board HDMI05-CL02F3)", 148 HDMI1_TX2_N (out) "Output HDMI1 TX2 Negative", 149 HDMI1_CEC (oc) "Input HDMI1 CEC Internally pulled up with a 27K. 5V tolerant. (It can be connected directly to a HDMI connector a small amount of ESD protection is provided on the CM4 by an on board HDMI05-CL02F3)", 152 HDMI1_TX1_P (out) "Output HDMI1 TX1 Positive", 154 HDMI1_TX1_N (out) "Output HDMI1 TX1 Negative", 158 HDMI1_TX0_P (out) "Output HDMI1 TX0 Positive", 160 HDMI1_TX0_N (out) "Output HDMI1 TX0 Negative", 164 HDMI1_CLK_P (out) "Output HDMI1 Clock Positive", 166 HDMI1_CLK_N (out) "Output HDMI1 Clock Negative"
part H pins: 102 PCIe_CLK_nREQ (in) "Input ( 3.3V signal) PCIe Clock request pin (low to request PCI clock). Internal pulled up", 109 PCIe_nRST (out) "Output (+3.3V signal) PCIe Reset Low active", 110 PCIe_CLK_P (out) "PCIe Clock Out Positive (100MHz) NB AC coupling Capacitor Included on CM4", 112 PCIe_CLK_N (out) "PCIe Clock Out Negative (100MHz) NB AC coupling Capacitor Included on CM4", 116 PCIe_RX_P (in) "Input PCIe GEN 2 RX Positive NB External AC coupling Capacitor required", 118 PCIe_RX_N (in) "Input PCIe GEN 2 RX Negative NB External AC coupling Capacitor required", 122 PCIe_TX_P (out) "Output PCIe GEN 2 TX Positive NB AC coupling Capacitor Included on CM4", 124 PCIe_TX_N (out) "Output PCIe GEN 2 TX Positive NB AC coupling Capacitor Included on CM4"
part I pins: 57 SD_CLK "SDCARD Clock signal (only available on CM4Lite)", 61 SD_DAT3 "SDCARD/eMMC Data3 signal (only available on CM4Lite)", 62 SD_CMD "SDCARD/eMMC Command signal (only available on CM4Lite)", 63 SD_DAT0 "SDCARD/eMMC Data0 signal (only available on CM4Lite)", 64 SD_DAT5 "SDCARD/eMMC Data5 signal (only available on CM4Lite)", 67 SD_DAT1 "SDCARD/eMMC Data1 signal (only available on CM4Lite)", 68 SD_DAT4 "SDCARD/eMMC Data4 signal (only available on CM4Lite)", 69 SD_DAT2 "SDCARD/eMMC Data2 signal (only available on CM4Lite)", 70 SD_DAT7 "SDCARD/eMMC Data7 signal (only available on CM4Lite)", 72 SD_DAT6 "SDCARD/eMMC Data6 signal (only available on CM4Lite)", 73 SD_VDD_Override (in) "Force SDCARD/eMMC interface to 1.8V signalling if set to 3.3V, otherwise leave unconnected. Typically only used if external eMMC is connected", 75 SD_PWR_ON (out) "Output to Power switch for SDCARD. CM4 sets this pin High (3.3V) to signal that Power to the SDCARD should be turned on. If booting from the SDCARD is required then a pullup should be fitted (only available on CM4Lite)"
part J pins: 89 ~{WL_DISABLE} (in) "Can be left floating if driven low the wireless interface will be disabled. Internal pulled up via 1.8K to CM4_3.3V", 91 ~{BT_DISABLE} (in) "Can be left floating if driven low the Bluetooth interface will be disabled. Internal pulled up via 1.8K to CM4_3.3V"
part K pins: 21 Pi_nLED_Activity (oc) "Low Active Pi Activity LED. 20mA Max 5V tolerant ( VOL<0.4V). ( this is the signal that drives the Green LED on the Raspberry Pi 4, Model B )", 95 PI_LED_nPWR (out) "Low active Output to drive Power On LED. This signal needs to be buffered."
part L pins: 20 ~{EEPROM_WP} "Leaving floating NB internally pulled up to CM4_3.3V via 100K ( VIL <0.8V) but can be grounded to prevent writing to the on board EEPROM which stores the bootcode", 76 RESERVED "Do not Connect anything to this pin.", 92 RUN_PG "Bidirectional pin. Can be driven low ( via a 220R resistor) to Reset the CM4 CPU. As an Output a high signals Power Good and CPU running. Internally pulled up to +3.3V via 10K", 93 ~{RPIBOOT} (in) "A low on this pin force booting from an RPI server ( e.g PC or a Raspberry Pi)  if not used leave floating. Internally pulled via 10K to +3.3V", 94 Analog IP1 "Analogue input of the MAX7704. Typically connected to CC pin of Type C power connector", 96 Analog IP0 "Analogue input of the MAX7704. Typically connected to CC pin of Type C power connector", 99 GLOBAL_EN (in) "Input. Drive low to power off CM4. Internally pulled up with a 100K to +5V", 100 ~{EXTRST} (out) "Output Driven low during reset Driven high (CM4_3.3V) once CM4 CPU has started to boot", 104 RESERVED "Do not Connect anything to this pin.", 106 RESERVED "Do not Connect anything to this pin."
part M pins: 101 USB_OTG_ID (in) "Input ( 3.3V signal ) USB OTG Pin. Internal pulled up. When grounded the CM4 becomes a USB host but the correct OS driver also needs to be used", 103 USB_N "USB D-", 105 USB_P "USB D+"
part N pins: 3 Ethernet_Pair3_P "Ethernet Pair 3 Positive ( connect to Transformer or MagJack)", 4 Ethernet_Pair1_P "Ethernet Pair 1 Positive ( connect to Transformer or MagJack)", 5 Ethernet_Pair3_N "Ethernet Pair 3 Negative ( connect to Transformer or MagJack)", 6 Ethernet_Pair1_N "Ethernet Pair 1 Negative ( connect to Transformer or MagJack)", 9 Ethernet_Pair2_N "Ethernet Pair 2 Negative ( connect to Transformer or MagJack)", 10 Ethernet_Pair0_N "Ethernet Pair 0 Negative ( connect to Transformer or MagJack)", 11 Ethernet_Pair2_P "Ethernet Pair 2 Positive ( connect to Transformer or MagJack)", 12 Ethernet_Pair0_P "Ethernet Pair 0 Positive ( connect to Transformer or MagJack)", 15 ~{Ethernet_LED3} (out) "Low Active Ethernet Activity indicator ( 3.3V signal) Typically a Green LED is connected to this pin: IOL = 8mA @ VOL< 0.4V", 16 Ethernet_SYNC_IN (in) "IEEE1588 SYNC Input pin ( 1.8V signal : IOL = 8mA @ VOL< 0.4V )", 17 ~{Ethernet_LED2} (out) "Low Active Ethernet speed indicator ( 3.3V signal) Typically a Yellow LED is connected to this pin. A low State indicates the 1Gbit or 100Mbit Link : IOL = 8mA @ VOL< 0.4V", 18 Ethernet_SYNC_OUT (in) "IEEE1588 SYNC Output pin ( 1.8V signal : IOL = 8mA @ VOL< 0.4V )", 19 ~{Ethernet_LED1} (out) "Low Active Ethernet speed indicator ( 3.3V signal) Typically a Yellow LED is connected to this pin. A low State indicates the 1Gbit or 10Mbit Link : IOL = 8mA @ VOL< 0.4V"
part O pins: 97 Camera_GPIO "Typically used to Shutdown the camera to reduce power. Reassigning this pin to another function isn’t recommended. CM4_3.3V signalling", 111 VDAC_COMP "Video DAC output (TV OUT)"
part A text: GPIO (GLOBAL PORT INPUT OUTPUT)
part B text: POWER SUPPLY
part C text: CAMERA0
part D text: CAMERA1
part E text: DSI (DISPLAY)
part F text: HDMI0
part G text: HDMI1
part H text: PCIe 2x1
part I text: SD CARD (LITE ONLY)
part J text: BT/WIFI
part K text: LEDs
part L text: BOOT/RESET/EEPROM
part M text: USB 2.0
part N text: ETHERNET
part O text: EXTRA GPIO

## CONN 2 MALE
designator J?, comment SPEAKER  Supplier Part Number 1: WM2722-ND
Supplier 1: Digi-Key
footprint CONN/HEADER/2.54mm/2POS
pins: 1, 2

## CONN 2 PHOENIX 3.5 mm
designator J?, comment 1844210  Supplier Part Number 1: 277-2416-ND
TERM BLOCK HDR 2POS 90DEG 3.5MM; Imax: 8A; Supplier 1: Digi-Key
footprint CONN2/PHOENIX/MC 1.5-2-G-3.5
pins: 1, 2

## CONN 4
designator J?, comment QWIIC I2C  Supplier Part Number 1: 474-PRT-14417
Supplier 1: Mouser
footprint QWIIC-SM04B-SRSS-TB
pins: 1, 2, 3, 4

## CONN 4 MALE
designator J?, comment FAN
WM1733-ND; Supplier 1: Digi-Key; Supplier Part Number 1: WM1733-ND
footprint CONN4/MOLEX/1.25mm/53047-0410
pins: 1, 2, 3, 4

## CONN 4_1
designator J?, comment CAN  Supplier Part Number 1: A107031CT-ND
Supplier 1: Digi-Key
footprint TE/MICROMATCH/7-2178711-4
pins: 1, 2, 3, 4

## CONN 5 FEMALE
designator J?, comment MINI-USB  FUNCTION: CONSOLE  Supplier Part Number 1: 609-5379-1-ND
DEBUG; Supplier 1: Digi-Key
footprint AMPHENOL_10118192-0002LF
pins: 1, 2, 3, 4, 5

## CONN 5 MALE
designator J?, comment RPLIDAR  Supplier Part Number 1: WM2714-ND
0022122054; Supplier 1: Digi-Key
footprint CONN/HEADER/2.54mm/5POS/MOLEX/22122054
pins: 1, 2, 3, 4, 5

## CONN 10 (2x5)
designator J?, comment I/Os  Supplier Part Number 1: A106469-ND
Supplier 1: Digi-Key
footprint HE/2.54/10
pins: 1, 2, 3, 4, 5, 6, 7, 8, 9, 10

## CONN 10 (2x5)_1
designator J?, comment CONN 10 (2x5)  Supplier Part Number 1: 609-3236-ND
Supplier 1: Digi-Key
footprint HE/2.54/10
pins: 1, 2, 3, 4, 5, 6, 7, 8, 9, 10

## CONN 15 FEMALE
designator J?, comment FPC 1mm 1-84952-5  Supplier Part Number 1: A101418CT-ND  Function: Display
CONN FPC BOTTOM 15POS 1.00MM R/A; Supplier 1: Digi-Key
footprint CONN15/FPC/TE/1-84952-5
pins: 1, 2, 3, 4, 5, 6, 7, 8, 9, 10, 11, 12, 13, 14, 15

## CONN/ETHERNET/HR911130A
designator J?, comment HR911130A
footprint CONN/ETHERNET/HR911130A
pins: 1 CT, 2 MDI0+, 3 MDI0-, 4 MDI1+, 5 MDI2+, 6 MDI2-, 7 MDI1-, 8 MDI3+, 9 MDI3-, 10 CHS GND, 11 LED_GREEN1, 12 LED_GREEN2, 13 LED_YELLOW2, 14 LED_YELLOW1, S
text: 100/1000

## CONN/USB/2xA
designator J?, comment 5787617-4  Supplier Part Number 1: 5787617-4-ND
CONN RCPT USB 8POS STACK T/H; Supplier 1: Digi-Key
footprint TE/5787617-4 (USB DUAL)
pins: 1A VB, 1B VB, 2A D-, 2B D-, 3A D+, 3B D+, 4A GND, 4B GND, S GND
text: 4; 3; 2; 1

## CR1220
designator B?  Supplier Part Number 1: P033-ND  (mechanical)
Lithum battery (LiCB) / 3V / 40mAh / 12.5 mm / 0.77 g; Supplier 1: Digi-Key
text: 3V

## DS1307
designator U?  Supplier Part Number 1: DS1307Z+-ND
RTC; Supplier 1: Digi-Key
footprint SOIC8 (8-Pin Small Outline Integrated Circuit 1.27 mm Pitch, IPC Low Density)
pins: 1 X1, 2 X2, 3 VBAT, 4 GND, 5 SDA, 6 SCL, 7 SQW/OUT, 8 VCC

## DT1140-04LP-DN
designator U?  (value not drawn)
TVS DIODE 5.5VWM 10VC U-DFN2510; Supplier 1: Digi-Key; Supplier Part Number 1: DT1140-04LP-7DICT-ND
footprint SOT1165-1
pins: 1, 2, 3 VSS, 4, 5, 6, 7, 8 VSS, 9, 10

## DT1140-04LP-UP
designator U?  Supplier Part Number 1: DT1140-04LP-7DICT-ND
TVS DIODE 5.5VWM 10VC U-DFN2510; Supplier 1: Digi-Key
footprint SOT1165-1
pins: 1, 2, 3 VSS, 4, 5, 6, 7, 8 VSS, 9, 10

## EMC2301
designator U?, comment EMC2301-1  Supplier Part Number 1: 886-EMC2301-1-ACZLTR
IC MOTOR DRIVER 3V-3.6V 8MSOP; Supplier 1: Mouser
footprint MSOP8
pins: 1 SDA, 2 SCL, 3 VDD, 4 GND, 5 PWM, 6 TACH, 7 CLK, 8 ~{ALERT}

## FAN
designator FAN?, comment ASB0305HP-00CP4  Supplier Part Number 1: 603-2070-ND  (mechanical)
Supplier 1: Digi-Key
text: 1. PWM; 2. FB; 3. 5V; 4. GND

## FB0603
designator FB?, comment MI0603L301R-10  Supplier Part Number 1: 240-2374-1-ND
Supplier 1: Digi-Key
footprint SM/L0603 (Chip Capacitor, Body 1.6x0.8mm, IPC Low Density)
pins: 1, 2

## FIDUCIAL
designator FID?, comment Fiducial 1.5 mm  (value not drawn)  (no BOM)
footprint FIDUCIAL (Fiducial marker)

## FT232
designator U?  Supplier Part Number 1: 768-1007-1-ND
Supplier 1: Digi-Key
footprint SSOP28
pins: 1 TXD (out), 2 ~{DTR} (out), 3 ~{RTS} (out), 4 VCCIO (power), 5 RXD (in), 6 ~{RI} (in), 7 GND, 9 ~{DSR} (in), 10 ~{DCD} (in), 11 ~{CTS} (in), 12 CBUS4 (io), 13 CBUS2 (io), 14 CBUS3 (io), 15 USBDP (io), 16 USBDM (io), 17 3V3OUT, 18 GND, 19 ~{RESET} (in), 20 VCC (power), 21 GND, 22 CBUS1 (io), 23 CBUS0 (io), 25 AGND, 26 TEST (in), 27 OSCI (in), 28 OSCO (out)

## HOLE/M2.5
designator S?, comment M2.5  (no BOM)
footprint HW/HOLE/M2.5
pins: 1

## L
designator L?, comment 3.7u  Isat: 10.2A  Supplier Part Number 1: 541-1350-1-ND
IHLP3232DZER2R2M11; Value: 2.2uH; Rule: UNIONINDEX=0|RULEKIND=PolygonConnect|NETSCOPE=Violation Description|LAYERKIND=SameLayer|NAME=Schematic Polygon Connect Style|CONNECTSTYLE=Direct|RELIEFCONDUCTORWIDTH=10mil|RELIEFENTRIES=4|POLYGONRELIEFANGLE=45 Angle|AIRGAPWIDTH=10mil|UNIT=Imperial; Supplier 1: Digi-Key
footprint IND_IHLP-3232DZ_VIS
pins: 1, 2

## LED
designator D?, comment POWER  Supplier Part Number 1: VAOL-S6SB4CT-ND  Vf: 2.75V
Supplier 1: Digi-Key
footprint SM/LED0603 (Chip Capacitor, Body 1.6x0.8mm, IPC Low Density)
pins: 1, 2

## LED_1
designator D?, comment ACTIVITY  Supplier Part Number 1: 350-2035-1-ND
Supplier 1: Digi-Key
footprint SM/LED0603 (Chip Capacitor, Body 1.6x0.8mm, IPC Low Density)
pins: 1, 2

## LED_2
designator D?, comment USER1  Supplier Part Number 1: 732-4979-1-ND
Supplier 1: Digi-Key
footprint SM/LED0603 (Chip Capacitor, Body 1.6x0.8mm, IPC Low Density)
pins: 1, 2

## LED_3
designator D?, comment USER2  Supplier Part Number 1: 492-1325-1-ND
Supplier 1: Digi-Key
footprint SM/LED0603 (Chip Capacitor, Body 1.6x0.8mm, IPC Low Density)
pins: 1, 2

## LED_4
designator D?, comment TX
Supplier 1: Digi-Key; Supplier Part Number 1: 732-4979-1-ND
footprint SM/LED0603 (Chip Capacitor, Body 1.6x0.8mm, IPC Low Density)
pins: 1, 2

## LED_5
designator D?, comment RX
Supplier 1: Digi-Key; Supplier Part Number 1: 732-4979-1-ND
footprint SM/LED0603 (Chip Capacitor, Body 1.6x0.8mm, IPC Low Density)
pins: 1, 2

## LTC2990
designator U?  Supplier Part Number 1: LTC2990IMS#PBF-ND
Supplier 1: Digi-Key
footprint MSOP10 (TSSOP, 10-Leads, Body 3.00x3.00mm, Pitch 0.50mm, Thermal Pad 1.68.2x1.68.2mm, IPC Medium Density)
pins: 1 V1, 2 V2, 3 V3, 4 V4, 5 GND, 6 SDA, 7 SCL, 8 ADR0, 9 ADR1, 10 VCC

## LTC4311
designator U?
The LTC®4311 is a dual I2C active pull-up designed to / enhance data transmission speed and reliability for bus / loading conditions well beyond the 400pF I2C specifi cation / limit. The LTC4311 operates at supply voltages from 1.6V / to 5.5V and is also compatible with SMBus.
footprint SC70-6 (SOT363, 6-Leads, Body 2x1.3mm, Pitch 0.65mm, Lead Span 2.1mm, IPC Low Density)
pins: 1 VCC, 2 GND, 3 EN, 4 BUS2, 5 GND, 6 BUS1

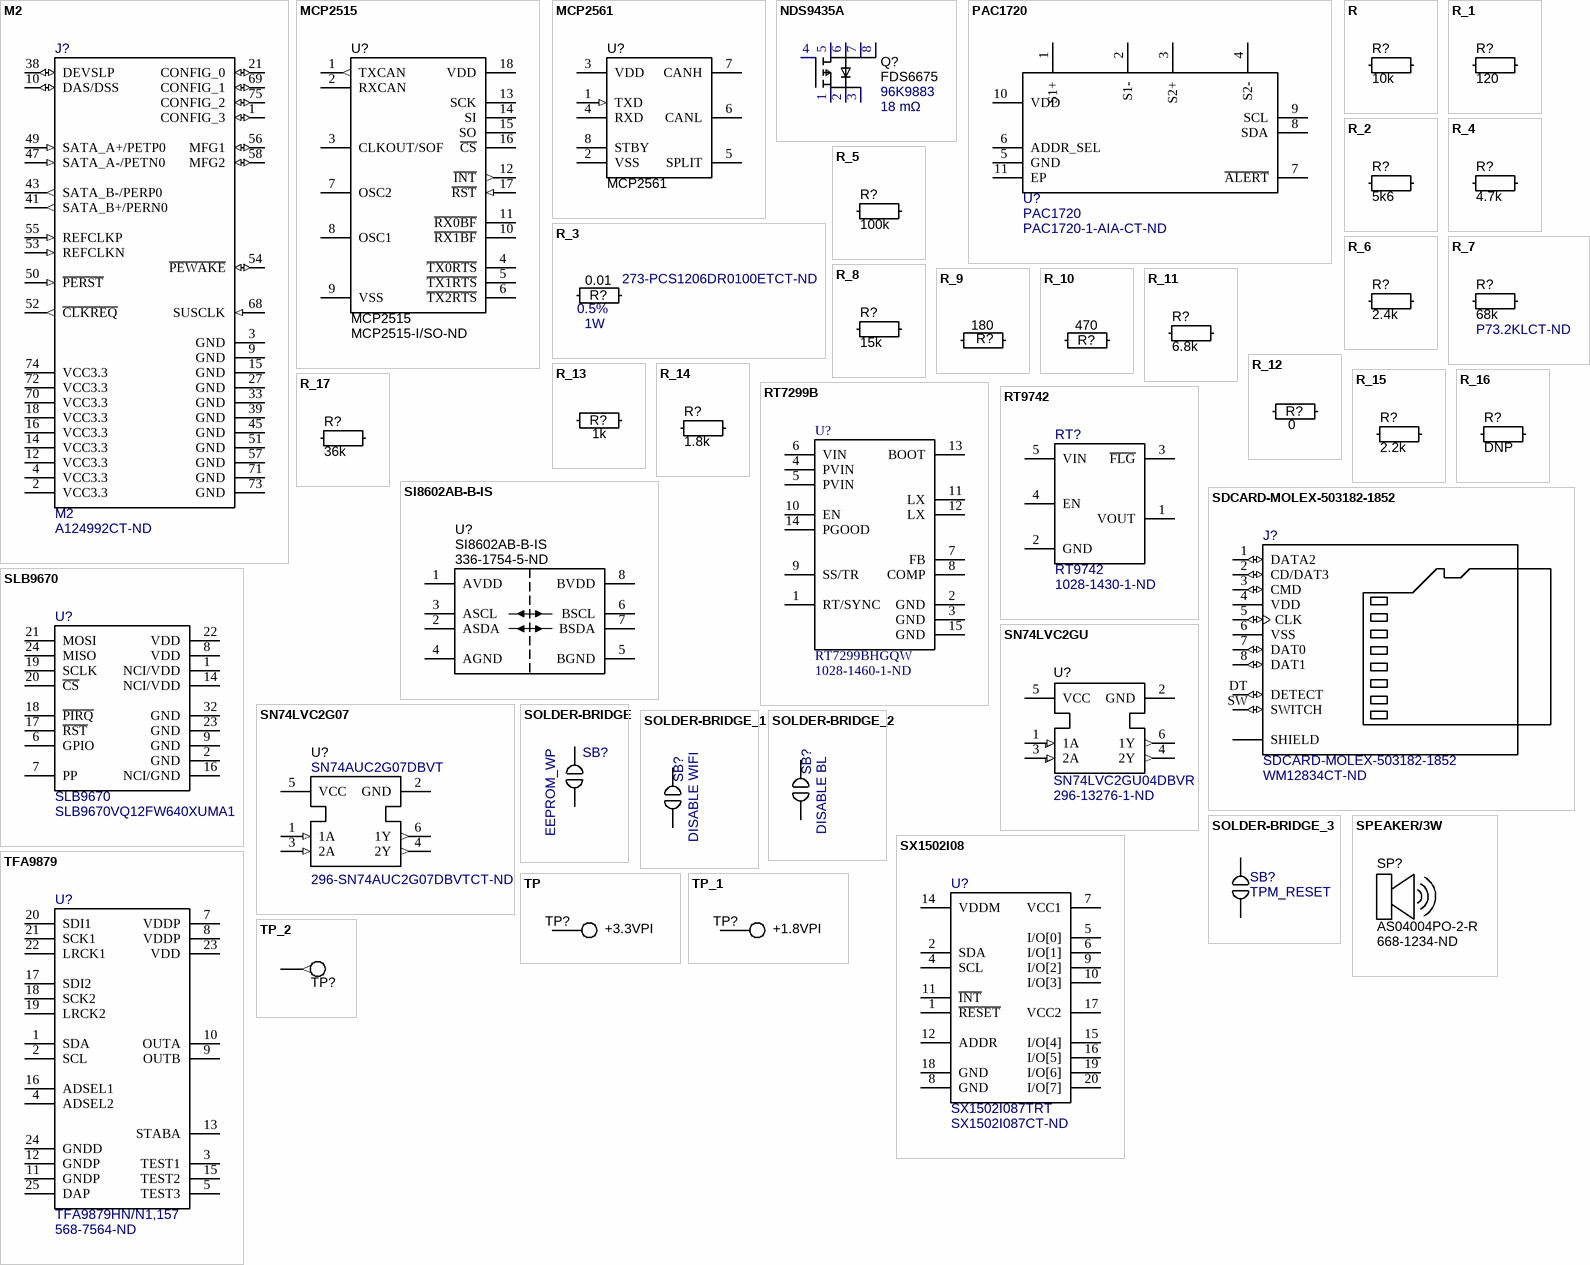
[diagram p4: symbols M2 to TP_2]

## M2
designator J?  Supplier Part Number 1: A124992CT-ND
Supplier 1: Digi-Key
footprint TE_1-2199230-5
pins: 1 CONFIG_3 (io), 2 VCC3.3 (power), 3 GND (power), 4 VCC3.3 (power), 9 GND (power), 10 DAS/DSS (io), 12 VCC3.3 (power), 14 VCC3.3 (power), 15 GND (power), 16 VCC3.3 (power), 18 VCC3.3 (power), 21 CONFIG_0 (io), 27 GND (power), 33 GND (power), 38 DEVSLP (io), 39 GND (power), 41 SATA_B+/PERN0 (out), 43 SATA_B-/PERP0 (out), 45 GND (power), 47 SATA_A-/PETN0 (in), 49 SATA_A+/PETP0 (in), 50 ~{PERST} (in), 51 GND (power), 52 ~{CLKREQ} (out), 53 REFCLKN (in), 54 ~{PEWAKE} (io), 55 REFCLKP (in), 56 MFG1 (io), 57 GND (power), 58 MFG2 (io), 68 SUSCLK (in), 69 CONFIG_1 (io), 70 VCC3.3 (power), 71 GND (power), 72 VCC3.3 (power), 73 GND (power), 74 VCC3.3 (power), 75 CONFIG_2 (io)

## MCP2515
designator U?  Supplier Part Number 1: MCP2515-I/SO-ND
Supplier 1: Digi-Key
footprint SOIC18/MCP2515 (SOIC, 18-Leads, Body 9.4 Pitch 1.27mm, IPC Low Density)
pins: 1 TXCAN (out), 2 RXCAN, 3 CLKOUT/SOF, 4 ~{TX0RTS}, 5 ~{TX1RTS}, 6 ~{TX2RTS}, 7 OSC2, 8 OSC1, 9 VSS, 10 ~{RX1BF}, 11 ~{RX0BF}, 12 ~{INT} (out), 13 SCK, 14 SI, 15 SO, 16 ~{CS}, 17 ~{RST} (in), 18 VDD

## MCP2561
designator U?
footprint SOIC8 (8-Pin Small Outline Integrated Circuit 1.27 mm Pitch, IPC Low Density)
pins: 1 TXD (in), 2 VSS, 3 VDD, 4 RXD, 5 SPLIT, 6 CANL, 7 CANH, 8 STBY

## NDS9435A
designator Q?, comment FDS6675  Supplier Part Number 1: 96K9883  Rdson: 18 mΩ
MOSFET P-CH 30V 11A 8SOIC; Supplier 1: Newark
footprint SOIC8 (8-Pin Small Outline Integrated Circuit 1.27 mm Pitch, IPC Low Density)
pins: 1 S, 2 S, 3 S, 4 G, 5 D, 6 D, 7 D, 8 D

## PAC1720
designator U?  Supplier Part Number 1: PAC1720-1-AIA-CT-ND
Stromüberwachung Regler Hohe Seite  10-DFN (3x3); Supplier 1: Digi-Key
footprint DFN10_3x3MC_MCH-M
pins: 1 S1+, 2 S1-, 3 S2+, 4 S2-, 5 GND, 6 ADDR_SEL, 7 ~{ALERT}, 8 SDA, 9 SCL, 10 VDD, 11 EP

## R
designator R?, comment 10k
Chip Resistor SMD
simulation model RES (Default semiconductor resistor)
footprint SM/R0603 (Chip Resistor, Body 1.6x0.8mm, IPC Low Density)
pins: 1, 2

## R_1
designator R?, comment 120
Chip Resistor SMD
simulation model RES (Default semiconductor resistor)
footprint SM/R0603 (Chip Resistor, Body 1.6x0.8mm, IPC Low Density)
pins: 1, 2

## R_2
designator R?, comment 5k6
Chip Resistor SMD
simulation model RES (Default semiconductor resistor)
footprint SM/R0603 (Chip Resistor, Body 1.6x0.8mm, IPC Low Density)
pins: 1, 2

## R_3
designator R?, comment 0.01  Power: 1W  Precision: 0.5%
273-PCS1206DR0100ETCT-ND; Rule: UNIONINDEX=0|RULEKIND=PolygonConnect|NETSCOPE=Violation Description|LAYERKIND=SameLayer|NAME=Schematic Polygon Connect Style|CONNECTSTYLE=Direct|RELIEFCONDUCTORWIDTH=10mil|RELIEFENTRIES=4|POLYGONRELIEFANGLE=45 Angle|AIRGAPWIDTH=10mil|UNIT=Imperial; Supplier 1: Digi-Key; Supplier Part Number 1: 273-PCS1206DR0100ETCT-ND
simulation model RES (Default semiconductor resistor)
footprint SM/R0805 (Chip Resistor, Body 2.0x1.3mm, IPC Low Density)
footprint SM/R1206 (Chip Resistor, Body 3.2x1.6mm, IPC Low Density)
pins: 1, 2

## R_4
designator R?, comment 4.7k
Chip Resistor SMD
simulation model RES (Default semiconductor resistor)
footprint SM/R0603 (Chip Resistor, Body 1.6x0.8mm, IPC Low Density)
pins: 1, 2

## R_5
designator R?, comment 100k
Chip Resistor SMD
simulation model RES (Default semiconductor resistor)
footprint SM/R0603 (Chip Resistor, Body 1.6x0.8mm, IPC Low Density)
pins: 1, 2

## R_6
designator R?, comment 2.4k
Chip Resistor SMD
simulation model RES (Default semiconductor resistor)
footprint SM/R0603 (Chip Resistor, Body 1.6x0.8mm, IPC Low Density)
pins: 1, 2

## R_7
designator R?, comment 68k  Supplier Part Number 1: P73.2KLCT-ND
RES 73.2 KOHMS 0.1% 0.15W 0603; Supplier 1: Digi-Key
simulation model RES (Default semiconductor resistor)
footprint SM/R0603 (Chip Resistor, Body 1.6x0.8mm, IPC Low Density)
pins: 1, 2

## R_8
designator R?, comment 15k
Chip Resistor SMD
simulation model RES (Default semiconductor resistor)
footprint SM/R0603 (Chip Resistor, Body 1.6x0.8mm, IPC Low Density)
pins: 1, 2

## R_9
designator R?, comment 180  (net tie)
Chip Resistor SMD
simulation model RES (Default semiconductor resistor)
footprint SM/R0603 (Chip Resistor, Body 1.6x0.8mm, IPC Low Density)
pins: 1, 2

## R_10
designator R?, comment 470
Chip Resistor SMD
simulation model RES (Default semiconductor resistor)
footprint SM/R0603 (Chip Resistor, Body 1.6x0.8mm, IPC Low Density)
pins: 1, 2

## R_11
designator R?, comment 6.8k
Chip Resistor SMD
simulation model RES (Default semiconductor resistor)
footprint SM/R0805 (Chip Resistor, Body 2.0x1.3mm, IPC Low Density)
pins: 1, 2

## R_12
designator R?, comment 0
Chip Resistor SMD
simulation model RES (Default semiconductor resistor)
footprint SM/R0805 (Chip Resistor, Body 2.0x1.3mm, IPC Low Density)
pins: 1, 2

## R_13
designator R?, comment 1k
Chip Resistor SMD
simulation model RES (Default semiconductor resistor)
footprint SM/R0805 (Chip Resistor, Body 2.0x1.3mm, IPC Low Density)
pins: 1, 2

## R_14
designator R?, comment 1.8k
Chip Resistor SMD
simulation model RES (Default semiconductor resistor)
footprint SM/R0603 (Chip Resistor, Body 1.6x0.8mm, IPC Low Density)
pins: 1, 2

## R_15
designator R?, comment 2.2k
Chip Resistor SMD
simulation model RES (Default semiconductor resistor)
footprint SM/R0805 (Chip Resistor, Body 2.0x1.3mm, IPC Low Density)
pins: 1, 2

## R_16
designator R?, comment DNP
Chip Resistor SMD
simulation model RES (Default semiconductor resistor)
footprint SM/R0805 (Chip Resistor, Body 2.0x1.3mm, IPC Low Density)
pins: 1, 2

## R_17
designator R?, comment 36k
Chip Resistor SMD
simulation model RES (Default semiconductor resistor)
footprint SM/R0603 (Chip Resistor, Body 1.6x0.8mm, IPC Low Density)
pins: 1, 2

## RT7299B
designator U?, comment RT7299BHGQW  Supplier Part Number 1: 1028-1460-1-ND
Buck Switching Regulator IC Positive Adjustable 0.6V 1 Output 8A 14-WFQFN Exposed Pad; Supplier 1: Digi-Key
footprint RT7299B
pins: 1 RT/SYNC, 2 GND, 3 GND, 4 PVIN, 5 PVIN, 6 VIN, 7 FB, 8 COMP, 9 SS/TR, 10 EN, 11 LX, 12 LX, 13 BOOT, 14 PGOOD, 15 GND

## RT9742
designator RT?  Supplier Part Number 1: 1028-1430-1-ND
Supplier 1: Digi-Key
footprint SOT23-5 (SOT23, 5-Leads, Body 3.0x2.6mm (max), Pitch 0.95mm, IPC Low Density)
pins: 1 VOUT, 2 GND, 3 ~{FLG}, 4 EN, 5 VIN

## SDCARD-MOLEX-503182-1852
designator J?  Supplier Part Number 1: WM12834CT-ND
10 _8 + 2_ Position Card Connector microSDâ„¢ Surface Mount, Right Angle Gold; MF: Molex; MP: 5031821852; Digi-Key_Part_Number: WM12834CT-ND; Digi-Key_Purchase_URL: https://www.digikey.com.tr/product-detail/en/molex/5031821852/WM12834CT-ND/5823232?utm_source=snapeda&utm_medium=aggregator&utm_campaign=symbol; SnapEDA_Link: https://www.snapeda.com/parts/5031821852/Molex/view-part/46835/?ref=snap; Value: *; Package: None; Supplier 1: Digi-Key
footprint MOLEX_503182-1852
footprint SDCARD-MOLEX_503182-1852
pins: 1 DATA2 (io), 2 CD/DAT3 (io), 3 CMD (io), 4 VDD (power), 5 CLK (io), 6 VSS (power), 7 DAT0 (io), 8 DAT1 (io), DT DETECT (io), P1 SHIELD, P2 SHIELD, P3 SHIELD, P4 SHIELD, P5 SHIELD, SW SWITCH (io)

## SI8602AB-B-IS
designator U?  Supplier Part Number 1: 336-1754-5-ND
Low-power dual channel digital isolator; Supplier 1: Digi-Key
footprint SOIC8 (8-Pin Small Outline Integrated Circuit 1.27 mm Pitch, IPC Low Density)
pins: 1 AVDD, 2 ASDA, 3 ASCL, 4 AGND, 5 BGND, 6 BSCL, 7 BSDA, 8 BVDD

## SLB9670
designator U?  Supplier Part Number 1: SLB9670VQ12FW640XUMA1
OPTIGA™ TPM / SECURITY IC'S/AUTHENTICATION IC' / Trusted Platform Module; Supplier 1: Arrow Electronics
footprint QFN50P500X500X90-33N-V
pins: 1 NCI/VDD, 2 GND, 6 GPIO, 7 PP, 8 VDD, 9 GND, 14 NCI/VDD, 16 NCI/GND, 17 ~{RST}, 18 ~{PIRQ}, 19 SCLK, 20 ~{CS}, 21 MOSI, 22 VDD, 23 GND, 24 MISO, 32 GND

## SN74LVC2G07
designator U?, comment SN74AUC2G07DBVT  Supplier Part Number 1: 296-SN74AUC2G07DBVTCT-ND
Buffer, Non-Inverting 2 Element 1 Bit per Element Open Drain Output SOT-23-6; Supplier 1: Digi-Key
footprint SOT23-6 (SOT23, 6-Leads, Body 3.1x3.2mm (max), Pitch 0.95mm, IPC Medium Density)
pins: 1 1A (in), 2 GND (power), 3 2A (in), 4 2Y (out), 5 VCC (power), 6 1Y (out)

## SN74LVC2GU
designator U?, comment SN74LVC2GU04DBVR  Supplier Part Number 1: 296-13276-1-ND
IC INVERTER 2CH 2-INP SOT23-6; Supplier 1: Digi-Key
footprint SOT23-6 (SOT23, 6-Leads, Body 3.1x3.2mm (max), Pitch 0.95mm, IPC Medium Density)
pins: 1 1A (in), 2 GND (power), 3 2A (in), 4 2Y (out), 5 VCC (power), 6 1Y (out)

## SOLDER-BRIDGE
designator SB?, comment EEPROM_WP  (net tie, no BOM)
footprint JUMPER/SB
pins: 1, 2

## SOLDER-BRIDGE_1
designator SB?, comment DISABLE WIFI  (net tie, no BOM)
footprint JUMPER/SB
pins: 1, 2

## SOLDER-BRIDGE_2
designator SB?, comment DISABLE BL  (net tie, no BOM)
footprint JUMPER/SB
pins: 1, 2

## SOLDER-BRIDGE_3
designator SB?, comment TPM_RESET  (net tie, no BOM)
footprint JUMPER/SB
pins: 1, 2

## SPEAKER/3W
designator SP?, comment AS04004PO-2-R  Supplier Part Number 1: 668-1234-ND  (mechanical)
SPEAKER 4OHM 3W TOP PORT 82DB; Supplier 1: Digi-Key

## SX1502I08
designator U?, comment SX1502I087TRT  Supplier Part Number 1: SX1502I087CT-ND
IC GPIO EXPANDER I2C 8CH 20QFNI/O Expander 8 I²C 400kHz 20-QFN-UT (3x3); Supplier 1: Digi-Key
footprint QFN40P300X300X50_HS-21N (QFN, 20-Leads, Body 3.00x3.00mm, Pitch 0.40mm, Thermal Pad 1.68x1.68mm, IPC Medium Density)
pins: 1 ~{RESET}, 2 SDA, 4 SCL, 5 I/O[0], 6 I/O[1], 7 VCC1, 8 GND, 9 I/O[2], 10 I/O[3], 11 ~{INT}, 12 ADDR, 14 VDDM, 15 I/O[4], 16 I/O[5], 17 VCC2, 18 GND, 19 I/O[6], 20 I/O[7]

## TFA9879
designator U?, comment TFA9879HN/N1,157  Supplier Part Number 1: 568-7564-ND
IC AMP CLSS D MONO 2.75W 24HVQFN; Supplier 1: Digi-Key
footprint QFN50P260X260X100-25N
pins: 1 SDA, 2 SCL, 3 TEST1, 4 ADSEL2, 5 TEST3, 7 VDDP, 8 VDDP, 9 OUTB, 10 OUTA, 11 GNDP, 12 GNDP, 13 STABA, 15 TEST2, 16 ADSEL1, 17 SDI2, 18 SCK2, 19 LRCK2, 20 SDI1, 21 SCK1, 22 LRCK1, 23 VDD, 24 GNDD, 25 DAP

## TP
designator TP?, comment +3.3VPI  (no BOM)
Test Point
footprint TP/SMALL
pins: 1

## TP_1
designator TP?, comment +1.8VPI  (no BOM)
Test Point
footprint TP/SMALL
pins: 1